# Altium schematic symbol library CM3_CM4_2021_Lib.SchLib: 258 symbols (part 3 of 4)
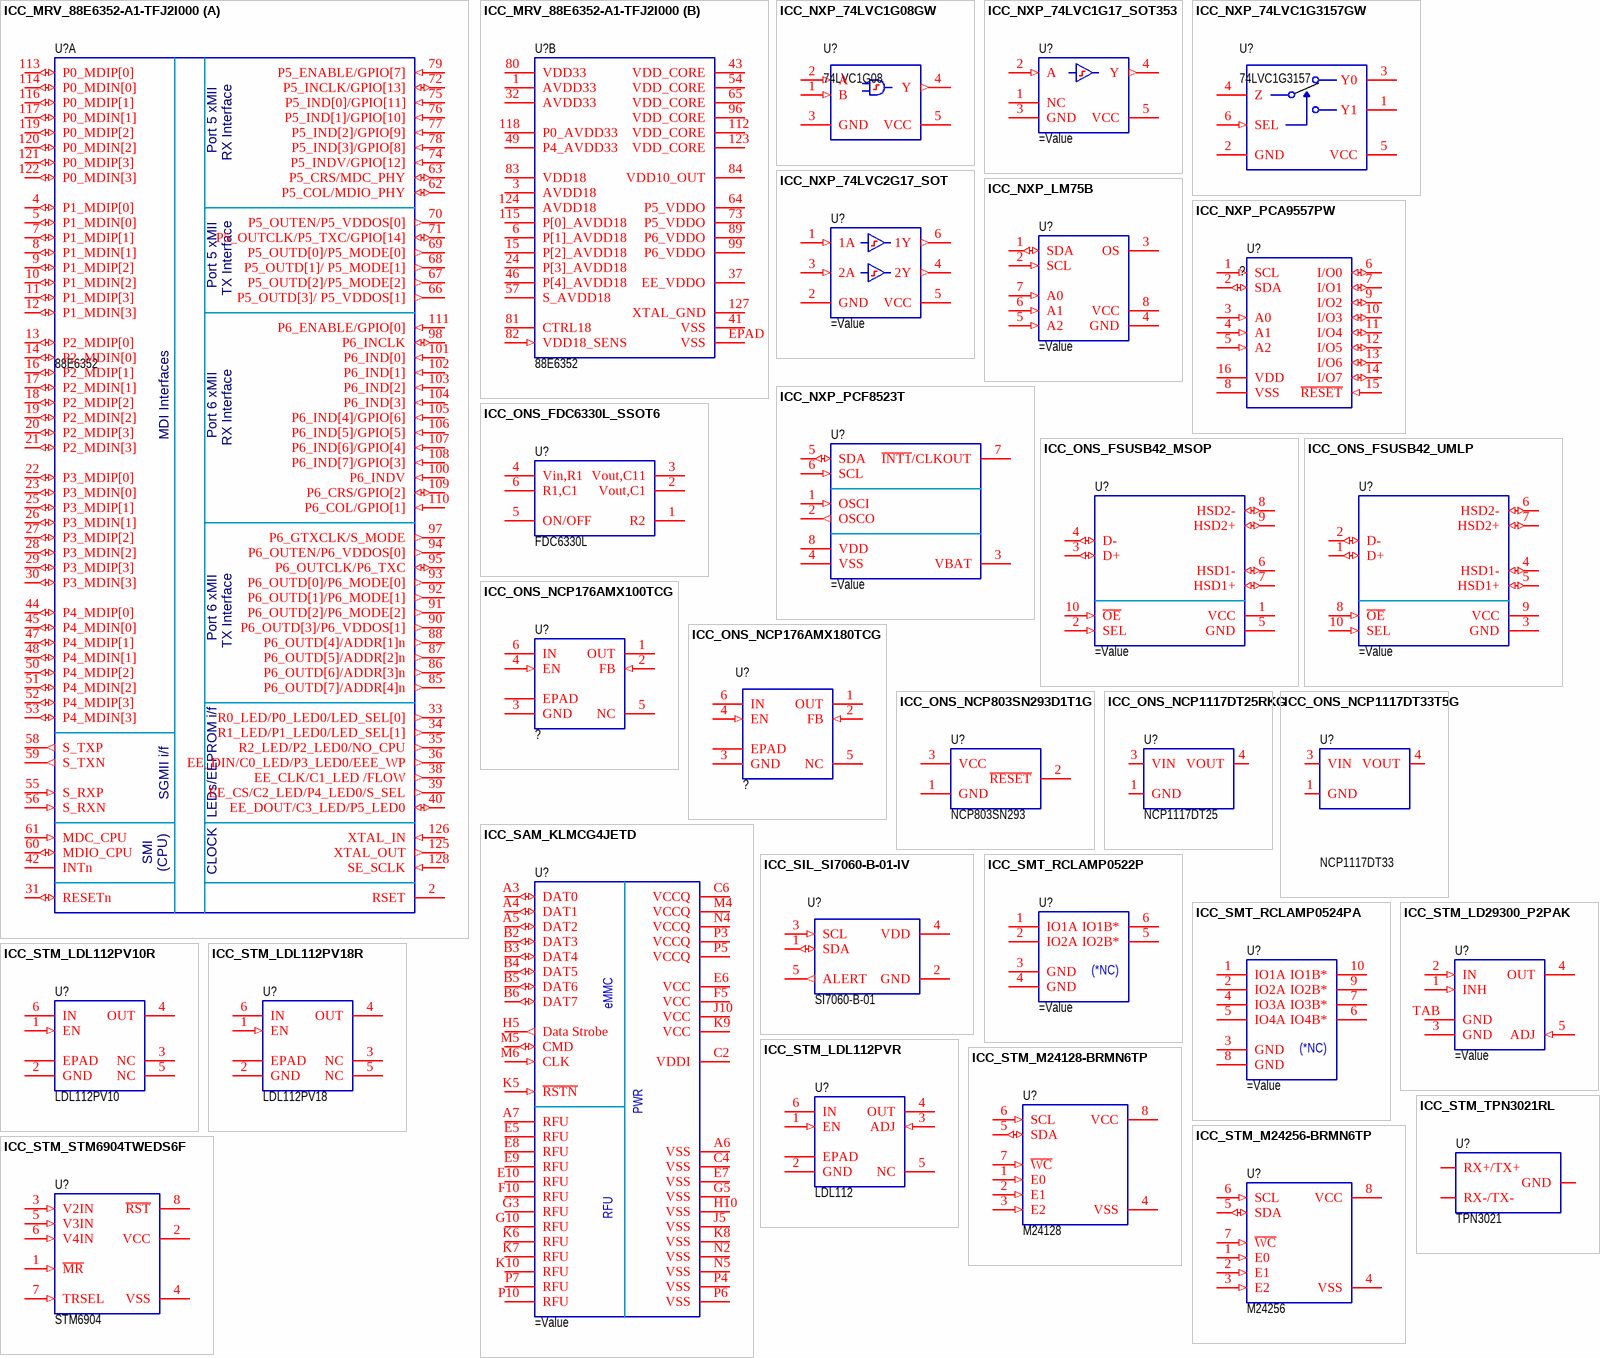
[diagram p17: symbols ICC_MRV_88E6352-A1-TFJ2I000 to ICC_STM_TPN3021RL]

## ICC_STM_LDL112PV10R
designator U?, comment LDL112PV10
ICC; Manufacturer: STMicroelectronics; MPN: LDL112PV10R; Specification: Low quiescent current LDO, 1.2A, Vout=1.0V, DFN6 package; Component Type: IC; Mounting Type: SMD; Operating Temperature: -40°C to +125°C; Package: DFN6; Value: LDL112PV10
footprint ICC_DFN6_300X300_P95
pins: 1 EN (in), 2 GND (power), 3 NC, 4 OUT (power), 5 NC, 6 IN (power), EP EPAD (power)

## ICC_STM_LDL112PV18R
designator U?, comment LDL112PV18
ICC; Manufacturer: STMicroelectronics; MPN: LDL112PV18R; Specification: Low quiescent current LDO, 1.2A, Vout=1.8V, DFN6 package; Component Type: IC; Mounting Type: SMD; Operating Temperature: -40°C to +125°C; Package: DFN6; Value: LDL112PV18
footprint ICC_DFN6_300X300_P95
pins: 1 EN (in), 2 GND (power), 3 NC, 4 OUT (power), 5 NC, 6 IN (power), EP EPAD (power)

## ICC_STM_LDL112PVR
designator U?, comment LDL112
ICC; Manufacturer: STMicroelectronics; MPN: LDL112PVR; Specification: Low quiescent current LDO, 1.2A, adjustable version, DFN6 package; Component Type: IC; Mounting Type: SMD; Operating Temperature: -40°C to +125°C; Package: DFN6; Value: LDL112
footprint ICC_DFN6_300X300_P95
pins: 1 EN (in), 2 GND (power), 3 ADJ (in), 4 OUT (power), 5 NC, 6 IN (power), EP EPAD (power)

## ICC_STM_M24128-BRMN6TP
designator U?, comment M24128
ICC; Manufacturer: STMicroelectronics; MPN: M24128-BRMN6TP; Specification: Serial I2C EEPROM memory, 128-Kbit (16KB), 1MHz, SOIC-8 package; Component Type: IC; Mounting Type: SMD; Operating Temperature: -40°C to +85°C; Package: SOIC-8; Value: M24128
pins: 1 E0 (in), 2 E1 (in), 3 E2 (in), 4 VSS (power), 5 SDA (io), 6 SCL (in), 7 ~{WC} (in), 8 VCC (power)

## ICC_STM_M24256-BRMN6TP
designator U?, comment M24256
ICC; Manufacturer: STMicroelectronics; MPN: M24256-BRMN6TP; Specification: Serial I2C EEPROM memory, 256-Kbit (32KB), 1MHz, 1.8 V to 5.5V, SOIC-8 package; Component Type: IC; Mounting Type: SMD; Operating Temperature: -40°C to +85°C; Package: SOIC-8; Value: M24256
pins: 1 E0 (in), 2 E1 (in), 3 E2 (in), 4 VSS (power), 5 SDA (io), 6 SCL (in), 7 ~{WC} (in), 8 VCC (power)

## ICC_STM_STM6904TWEDS6F
designator U?, comment STM6904
ICC; Manufacturer: STMicroelectronics; MPN: STM6904TWEDS6F; Specification: Quad, ultralow voltage supervisor with push-button RESET, TSSOP package; Component Type: IC; Mounting Type: SMD; Operating Temperature: -40°C to +85°C; Package: TSSOP8; Value: STM6904
footprint TSSOP8 (Footprint not found)
pins: 1 ~{MR} (in), 2 VCC (power), 3 V2IN (in), 4 VSS (power), 5 V3IN (in), 6 V4IN (in), 7 TRSEL (in), 8 ~{RST} (oc)

## ICC_STM_TPN3021RL
designator U?, comment TPN3021
ICC; Manufacturer: STMicroelectronics; MPN: TPN3021RL; Specification: Tripolar overvoltage protection, 38V, 200A surge, SMD SOIC-8 package; Component Type: IC; Mounting Type: SMD; Operating Temperature: -40°C to +150°C; Package: SOIC-8; Value: TPN3021
footprint SO8 (Reflow soldering)
pins: 1 RX+/TX+ (power), 4 RX-/TX- (power), 6 GND (power)

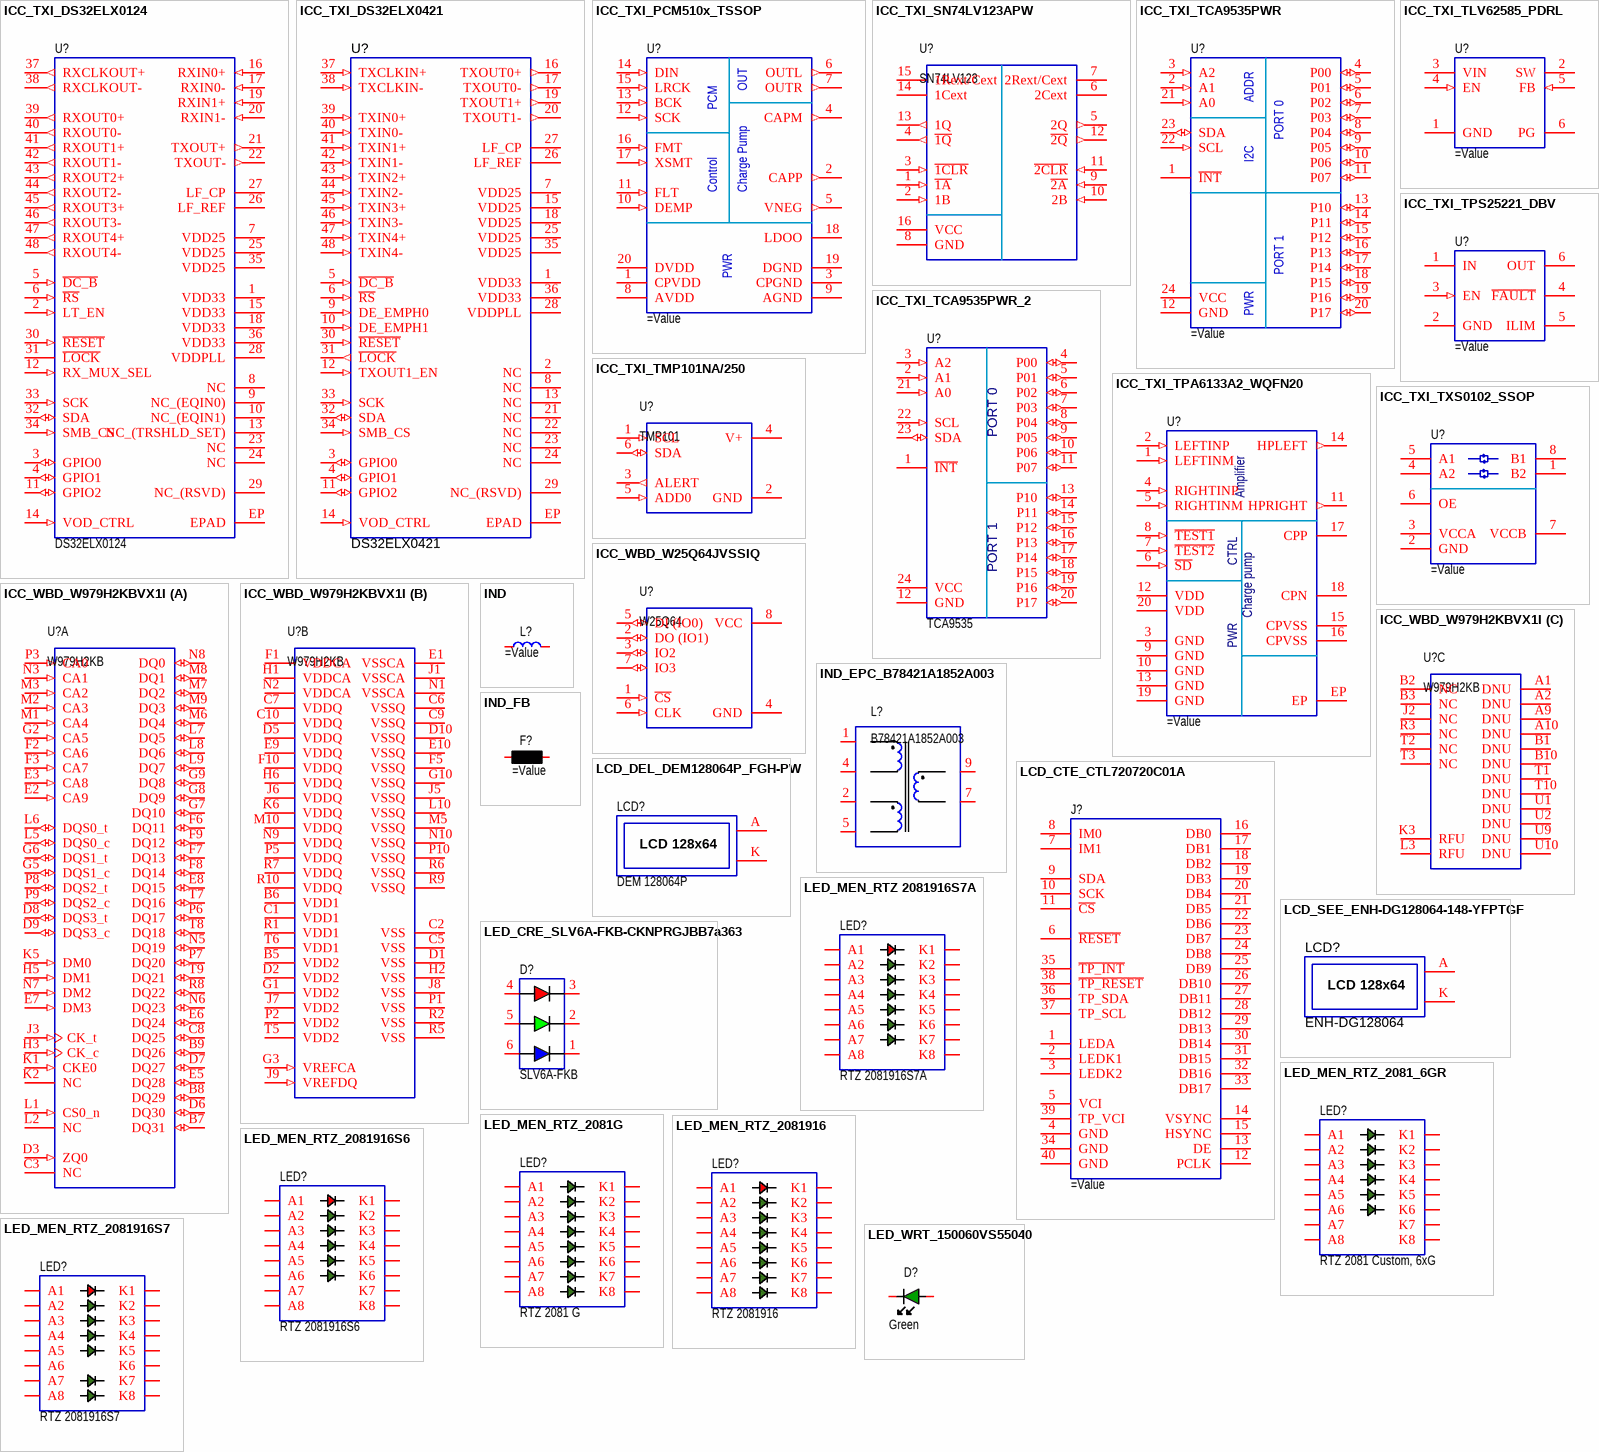
[diagram p11: symbols ICC_TXI_DS32ELX0124 to LED_WRT_150060VS55040]

## ICC_TXI_DS32ELX0124
designator U?, comment DS32ELX0124
IC; Manufacturer: Texas Instruments; MPN: DS32ELX0124SQE/NOPB; Replacement: NO; Specification: 125 - 312.5 MHz FPGA-Link Deserializer with DDR LVDS Parallel Interface, WQFN48 package; Component Type: IC; Mounting Type: SMD; Operating Temperature: -40°C to +85°C; Package: WQFN48; System: ?; Value: DS32ELX0124
footprint ICC_WQFN48 (Footprint not found)
pins: 1 VDD33 (power), 2 LT_EN (in), 3 GPIO0 (io), 4 GPIO1 (io), 5 ~{DC_B} (in), 6 ~{RS} (in), 7 VDD25 (power), 8 NC, 9 NC_(EQIN0), 10 NC_(EQIN1), 11 GPIO2 (io), 12 RX_MUX_SEL (in), 13 NC_(TRSHLD_SET), 14 VOD_CTRL (in), 15 VDD33 (power), 16 RXIN0+ (in), 17 RXIN0- (in), 18 VDD33 (power), 19 RXIN1+ (in), 20 RXIN1- (in), 21 TXOUT+ (out), 22 TXOUT- (out), 23 NC, 24 NC, 25 VDD25 (power), 26 LF_REF, 27 LF_CP, 28 VDDPLL (power), 29 NC_(RSVD), 30 ~{RESET} (in), 31 ~{LOCK} (oc), 32 SDA (io), 33 SCK (in), 34 SMB_CS (in), 35 VDD25 (power), 36 VDD33 (power), 37 RXCLKOUT+ (out), 38 RXCLKOUT- (out), 39 RXOUT0+ (out), 40 RXOUT0- (out), 41 RXOUT1+ (out), 42 RXOUT1- (out), 43 RXOUT2+ (out), 44 RXOUT2- (out), 45 RXOUT3+ (out), 46 RXOUT3- (out), 47 RXOUT4+ (out), 48 RXOUT4- (out), EP EPAD (power)

## ICC_TXI_DS32ELX0421
designator U?, comment DS32ELX0421
IC; Manufacturer: Texas Instruments; MPN: DS32ELX0421SQE/NOPB; Replacement: NO; Specification: 125 - 312.5 MHz FPGA-Link Serializer with DDR LVDS Parallel Interface, WQFN48 package; Component Type: IC; Mounting Type: SMD; Operating Temperature: -40°C to +85°C; Package: WQFN48; System: ?; Value: DS32ELX0421
footprint ICC_WQFN48 (Footprint not found)
pins: 1 VDD33 (power), 2 NC, 3 GPIO0 (io), 4 GPIO1 (io), 5 ~{DC_B} (in), 6 ~{RS} (in), 7 VDD25 (power), 8 NC, 9 DE_EMPH0 (in), 10 DE_EMPH1 (in), 11 GPIO2 (io), 12 TXOUT1_EN (in), 13 NC, 14 VOD_CTRL (in), 15 VDD25 (power), 16 TXOUT0+ (out), 17 TXOUT0- (out), 18 VDD25 (power), 19 TXOUT1+ (out), 20 TXOUT1- (out), 21 NC, 22 NC, 23 NC, 24 NC, 25 VDD25 (power), 26 LF_REF, 27 LF_CP, 28 VDDPLL (power), 29 NC_(RSVD), 30 ~{RESET} (in), 31 ~{LOCK} (out), 32 SDA (io), 33 SCK (in), 34 SMB_CS (in), 35 VDD25 (power), 36 VDD33 (power), 37 TXCLKIN+ (in), 38 TXCLKIN- (in), 39 TXIN0+ (in), 40 TXIN0- (in), 41 TXIN1+ (in), 42 TXIN1- (in), 43 TXIN2+ (in), 44 TXIN2- (in), 45 TXIN3+ (in), 46 TXIN3- (in), 47 TXIN4+ (in), 48 TXIN4- (in), EP EPAD (power)

## ICC_TXI_PCM510x_TSSOP
designator U?
IC; Audio DAC;
pins: 1 CPVDD (power), 2 CAPP (out), 3 CPGND (power), 4 CAPM (out), 5 VNEG (out), 6 OUTL (out), 7 OUTR (out), 8 AVDD (power), 9 AGND (power), 10 DEMP (in), 11 FLT (in), 12 SCK (in), 13 BCK (in), 14 DIN (in), 15 LRCK (in), 16 FMT (in), 17 XSMT (in), 18 LDOO (power), 19 DGND (power), 20 DVDD (power)
text: OUT; PCM; Control; Charge Pump; PWR

## ICC_TXI_SN74LV123APW
designator U?, comment SN74LV123
ICC; Manufacturer: Texas Instruments; MPN: SN74LV123APW; Specification: Retriggerable monostable multivibrator with schmitt-trigger inputs, dual, TSSOP16 package; Component Type: IC; Mounting Type: SMD; Operating Temperature: -40°C to +125°C; Package: TSSOP16; Value: SN74LV123
footprint ICC_TSSOP16
pins: 1 ~{1A} (in), 2 1B (in), 3 ~{1CLR} (in), 4 ~{1Q} (out), 5 2Q (out), 6 2Cext, 7 2Rext/Cext, 8 GND (power), 9 ~{2A} (in), 10 2B (in), 11 ~{2CLR} (in), 12 ~{2Q} (out), 13 1Q (out), 14 1Cext, 15 1Rext/Cext, 16 VCC (power)

## ICC_TXI_TCA9535PWR
designator U?
IC; I/O Expander;
pins: 1 ~{INT} (oc), 2 A1 (in), 3 A2 (in), 4 P00 (io), 5 P01 (io), 6 P02 (io), 7 P03 (io), 8 P04 (io), 9 P05 (io), 10 P06 (io), 11 P07 (io), 12 GND (power), 13 P10 (io), 14 P11 (io), 15 P12 (io), 16 P13 (io), 17 P14 (io), 18 P15 (io), 19 P16 (io), 20 P17 (io), 21 A0 (in), 22 SCL (in), 23 SDA (io), 24 VCC (power)
text: ADDR; PORT 0; I2C; PORT 1; PWR

## ICC_TXI_TCA9535PWR_2
designator U?, comment TCA9535
ICC; Manufacturer: Texas Instruments; MPN: TCA9535PWR; Specification: 16-bit I2C and SMBus I/O Expander with Interrupt Output, TSSOP24 package; Component Type: IC; Mounting Type: SMD; Operating Temperature: -40°C to +85°C; Package: TSSOP24; Value: TCA9535
footprint ICC_TSSOP24_TI
pins: 1 ~{INT} (oc), 2 A1 (in), 3 A2 (in), 4 P00 (io), 5 P01 (io), 6 P02 (io), 7 P03 (io), 8 P04 (io), 9 P05 (io), 10 P06 (io), 11 P07 (io), 12 GND (power), 13 P10 (io), 14 P11 (io), 15 P12 (io), 16 P13 (io), 17 P14 (io), 18 P15 (io), 19 P16 (io), 20 P17 (io), 21 A0 (in), 22 SCL (in), 23 SDA (io), 24 VCC (power)
text: PORT 0; PORT 1

## ICC_TXI_TLV62585_PDRL
designator U?
IC; Buck Converter;
pins: 1 GND (power), 2 SW (power), 3 VIN (power), 4 EN (in), 5 FB (in), 6 PG (oc)

## ICC_TXI_TMP101NA/250
designator U?, comment TMP101
ICC; Manufacturer: Texas Instruments; MPN: TMP101NA/250; Specification: Temperature sensor with alert function, I2C/SMBus interface, SOT-23-6 package; Component Type: IC; Mounting Type: SMD; Operating Temperature: -55°C to +125°C; Package: SOT23-6; Value: TMP101
footprint PKG_SOT23-6 (Footprint not found)
pins: 1 SCL (in), 2 GND (power), 3 ALERT (out), 4 V+ (power), 5 ADD0 (in), 6 SDA (io)

## ICC_TXI_TPA6133A2_WQFN20
designator U?
IC; Headphone Amplifier;
pins: 1 LEFTINM (in), 2 LEFTINP (in), 3 GND (power), 4 RIGHTINP (in), 5 RIGHTINM (in), 6 ~{SD} (in), 7 ~{TEST2} (in), 8 ~{TEST1} (in), 9 GND (power), 10 GND (power), 11 HPRIGHT (out), 12 VDD (power), 13 GND (power), 14 HPLEFT (out), 15 CPVSS (power), 16 CPVSS (power), 17 CPP (power), 18 CPN (power), 19 GND (power), 20 VDD (power), EP
text: Amplifier; CTRL; Charge pump; PWR

## ICC_TXI_TPS25221_DBV
designator U?
IC; Current Limited Switch;
pins: 1 IN (power), 2 GND (power), 3 EN (in), 4 ~{FAULT}, 5 ILIM, 6 OUT (power)

## ICC_TXI_TXS0102_SSOP
designator U?
IC; Level Translator;
pins: 1 B2, 2 GND, 3 VCCA, 4 A2, 5 A1, 6 OE, 7 VCCB, 8 B1

## ICC_WBD_W25Q64JVSSIQ
designator U?, comment W25Q64
ICC; Manufacturer: Winbond Electronics; MPN: W25Q64JVSSIQ; Specification: Serial NOR Flash memory, 3V, 64Mbit, SPI interface, 133MHz, SOIC 8pin; Component Type: IC; Mounting Type: SMD; Operating Temperature: -40°C to +85°C; Package: SOIC-8; Value: W25Q64
footprint SO8 (Footprint not found)
pins: 1 ~{CS} (in), 2 DO (IO1) (io), 3 IO2 (io), 4 GND (power), 5 DI (IO0) (io), 6 CLK (in), 7 IO3 (io), 8 VCC (power)

## ICC_WBD_W979H2KBVX1I
designator U?, comment W979H2KB
ICC; Manufacturer: Winbond Electronics; MPN: W979H2KBVX1I; Specification: DRAM LPDDR2 memory, 512Mbit, 16Mx32bit, 533 MHz (1066Mbps), VFBGA 134 pin package; Component Type: IC; Mounting Type: SMD; Operating Temperature: -40°C to +85°C; Package: VFBGA134; Value: W979H2KB
footprint ICC_VFBGA134_1000X1150X90P65 (BGA, 134-Balls, Body 11.5x10mm, Pitch 0.65mm)
part A pins: B7 DQ31 (io) "Data input/output: Bidirectional data bus.", B8 DQ29 (io) "Data input/output: Bidirectional data bus.", B9 DQ26 (io) "Data input/output: Bidirectional data bus.", C3 NC "No connect: Not internally connected.", C8 DQ25 (io) "Data input/output: Bidirectional data bus.", D3 ZQ0 (in) "External impedance (240 ohm): This signal is used to calibrate the device output impedance.", D6 DQ30 (io) "Data input/output: Bidirectional data bus.", D7 DQ27 (io) "Data input/output: Bidirectional data bus.", D8 DQS3_t (io) "Data strobe: The data strobe is bidirectional (used for read and write data) andcomplementary (DQS and DQS#). It is edge-aligned output with read data andcentered input with write data. DQS[3:0]/DQS[3:0]# is DQS for each of (See Datasheet)", D9 DQS3_c (io) "Data strobe: The data strobe is bidirectional (used for read and write data) andcomplementary (DQS and DQS#). It is edge-aligned output with read data andcentered input with write data. DQS[3:0]/DQS[3:0]# is DQS for each of (See Datasheet)", E2 CA9 (in) "Command/address inputs: Provide the command and address inputs accordingto the command truth table.", E3 CA8 (in) "Command/address inputs: Provide the command and address inputs accordingto the command truth table.", E5 DQ28 (io) "Data input/output: Bidirectional data bus.", E6 DQ24 (io) "Data input/output: Bidirectional data bus.", E7 DM3 (in) "Input data mask: DM is an input mask signal for write data. Although DM ballsare input-only, the DM loading is designed to match that of DQ and DQS balls.DM[3:0] is DM for each of the four data bytes, respectively.", E8 DQ15 (io) "Data input/output: Bidirectional data bus.", F2 CA6 (in) "Command/address inputs: Provide the command and address inputs accordingto the command truth table.", F3 CA7 (in) "Command/address inputs: Provide the command and address inputs accordingto the command truth table.", F6 DQ11 (io) "Data input/output: Bidirectional data bus.", F7 DQ13 (io) "Data input/output: Bidirectional data bus.", F8 DQ14 (io) "Data input/output: Bidirectional data bus.", F9 DQ12 (io) "Data input/output: Bidirectional data bus.", G2 CA5 (in) "Command/address inputs: Provide the command and address inputs accordingto the command truth table.", G5 DQS1_c (io) "Data strobe: The data strobe is bidirectional (used for read and write data) andcomplementary (DQS and DQS#). It is edge-aligned output with read data andcentered input with write data. DQS[3:0]/DQS[3:0]# is DQS for each of (See Datasheet)", G6 DQS1_t (io) "Data strobe: The data strobe is bidirectional (used for read and write data) andcomplementary (DQS and DQS#). It is edge-aligned output with read data andcentered input with write data. DQS[3:0]/DQS[3:0]# is DQS for each of (See Datasheet)", G7 DQ10 (io) "Data input/output: Bidirectional data bus.", G8 DQ9 (io) "Data input/output: Bidirectional data bus.", G9 DQ8 (io) "Data input/output: Bidirectional data bus.", H3 CK_c (in) "Clock: CK and CK# are differential clock inputs. All CA inputs are sampled onboth rising and falling edges of CK. CS and CKE inputs are sampled at the risingedge of CK. AC timings are referenced to clock.", H5 DM1 (in) "Input data mask: DM is an input mask signal for write data. Although DM ballsare input-only, the DM loading is designed to match that of DQ and DQS balls.DM[3:0] is DM for each of the four data bytes, respectively.", J3 CK_t (in) "Clock: CK and CK# are differential clock inputs. All CA inputs are sampled onboth rising and falling edges of CK. CS and CKE inputs are sampled at the risingedge of CK. AC timings are referenced to clock.", K1 CKE0 (in) "Clock enable: CKE HIGH activates and CKE LOW deactivates the internal clocksignals, input buffers, and output drivers. Power-saving modes are entered andexited via CKE transitions. CKE is considered part of the command code. (See Datasheet)", K2 NC "No connect: Not internally connected.", K5 DM0 (in) "Input data mask: DM is an input mask signal for write data. Although DM ballsare input-only, the DM loading is designed to match that of DQ and DQS balls.DM[3:0] is DM for each of the four data bytes, respectively.", L1 CS0_n (in) "Chip select: CS# is considered part of the command code and is sampled at therising edge of CK.", L2 NC "No connect: Not internally connected.", L5 DQS0_c (io) "Data strobe: The data strobe is bidirectional (used for read and write data) andcomplementary (DQS and DQS#). It is edge-aligned output with read data andcentered input with write data. DQS[3:0]/DQS[3:0]# is DQS for each of (See Datasheet)", L6 DQS0_t (io) "Data strobe: The data strobe is bidirectional (used for read and write data) andcomplementary (DQS and DQS#). It is edge-aligned output with read data andcentered input with write data. DQS[3:0]/DQS[3:0]# is DQS for each of (See Datasheet)", L7 DQ5 (io) "Data input/output: Bidirectional data bus.", L8 DQ6 (io) "Data input/output: Bidirectional data bus.", L9 DQ7 (io) "Data input/output: Bidirectional data bus.", M1 CA4 (in) "Command/address inputs: Provide the command and address inputs accordingto the command truth table.", M2 CA3 (in) "Command/address inputs: Provide the command and address inputs accordingto the command truth table.", M3 CA2 (in) "Command/address inputs: Provide the command and address inputs accordingto the command truth table.", M6 DQ4 (io) "Data input/output: Bidirectional data bus.", M7 DQ2 (io) "Data input/output: Bidirectional data bus.", M8 DQ1 (io) "Data input/output: Bidirectional data bus.", M9 DQ3 (io) "Data input/output: Bidirectional data bus.", N3 CA1 (in) "Command/address inputs: Provide the command and address inputs accordingto the command truth table.", N5 DQ19 (io) "Data input/output: Bidirectional data bus.", N6 DQ23 (io) "Data input/output: Bidirectional data bus.", N7 DM2 (in) "Input data mask: DM is an input mask signal for write data. Although DM ballsare input-only, the DM loading is designed to match that of DQ and DQS balls.DM[3:0] is DM for each of the four data bytes, respectively.", N8 DQ0 (io) "Data input/output: Bidirectional data bus.", P3 CA0 (in) "Command/address inputs: Provide the command and address inputs accordingto the command truth table.", P6 DQ17 (io) "Data input/output: Bidirectional data bus.", P7 DQ20 (io) "Data input/output: Bidirectional data bus.", P8 DQS2_t (io) "Data strobe: The data strobe is bidirectional (used for read and write data) andcomplementary (DQS and DQS#). It is edge-aligned output with read data andcentered input with write data. DQS[3:0]/DQS[3:0]# is DQS for each of (See Datasheet)", P9 DQS2_c (io) "Data strobe: The data strobe is bidirectional (used for read and write data) andcomplementary (DQS and DQS#). It is edge-aligned output with read data andcentered input with write data. DQS[3:0]/DQS[3:0]# is DQS for each of (See Datasheet)", R8 DQ22 (io) "Data input/output: Bidirectional data bus.", T7 DQ16 (io) "Data input/output: Bidirectional data bus.", T8 DQ18 (io) "Data input/output: Bidirectional data bus.", T9 DQ21 (io) "Data input/output: Bidirectional data bus."
part B pins: B5 VDD2 (power) "Core power: Supply 2.", B6 VDD1 (power) "Core power: Supply 1.", C1 VDD1 (power) "Core power: Supply 1.", C2 VSS (power) "Common ground.", C5 VSS (power) "Common ground.", C6 VSSQ (power) "DQ ground: Isolated on the die for improved noise immunity.", C7 VDDQ (power) "DQ power supply: Isolated on the die for improved noise immunity.", C9 VSSQ (power) "DQ ground: Isolated on the die for improved noise immunity.", C10 VDDQ (power) "DQ power supply: Isolated on the die for improved noise immunity.", D1 VSS (power) "Common ground", D2 VDD2 (power) "Core power: Supply 2.", D5 VDDQ (power) "DQ power supply: Isolated on the die for improved noise immunity.", D10 VSSQ (power) "DQ ground: Isolated on the die for improved noise immunity.", E1 VSSCA (power) "Command/address ground: Isolated on the die for improved noise immunity.", E9 VDDQ (power) "DQ power supply: Isolated on the die for improved noise immunity.", E10 VSSQ (power) "DQ ground: Isolated on the die for improved noise immunity.", F1 VDDCA (power) "Command/address power supply: Command/address power supply.", F5 VSSQ (power) "DQ ground: Isolated on the die for improved noise immunity.", F10 VDDQ (power) "DQ power supply: Isolated on the die for improved noise immunity.", G1 VDD2 (power) "Core power: Supply 2.", G3 VREFCA (in) "Reference voltage: VREFCA is reference for command/address input buffers,VREFDQ is reference for DQ input buffers.", G10 VSSQ (power) "DQ ground: Isolated on the die for improved noise immunity.", H1 VDDCA (power) "Command/address power supply: Command/address power supply.", H2 VSS (power) "Common ground", H6 VDDQ (power) "DQ power supply: Isolated on the die for improved noise immunity.", J1 VSSCA (power) "Command/address ground: Isolated on the die for improved noise immunity.", J5 VSSQ (power) "DQ ground: Isolated on the die for improved noise immunity.", J6 VDDQ (power) "DQ power supply: Isolated on the die for improved noise immunity.", J7 VDD2 (power) "Core power: Supply 2.", J8 VSS (power) "Common ground", J9 VREFDQ (in) "Reference voltage: VREFCA is reference for command/address input buffers,VREFDQ is reference for DQ input buffers.", K6 VDDQ (power) "DQ power supply: Isolated on the die for improved noise immunity.", L10 VSSQ (power) "DQ ground: Isolated on the die for improved noise immunity.", M5 VSSQ (power) "DQ ground: Isolated on the die for improved noise immunity.", M10 VDDQ (power) "DQ power supply: Isolated on the die for improved noise immunity.", N1 VSSCA (power) "Command/address ground: Isolated on the die for improved noise immunity.", N2 VDDCA (power) "Command/address power supply: Command/address power supply.", N9 VDDQ (power) "DQ power supply: Isolated on the die for improved noise immunity.", N10 VSSQ (power) "DQ ground: Isolated on the die for improved noise immunity.", P1 VSS (power) "Common ground", P2 VDD2 (power) "Core power: Supply 2.", P5 VDDQ (power) "DQ power supply: Isolated on the die for improved noise immunity.", P10 VSSQ (power) "DQ ground: Isolated on the die for improved noise immunity.", R1 VDD1 (power) "Core power: Supply 1.", R2 VSS (power) "Common ground", R5 VSS (power) "Common ground", R6 VSSQ (power) "DQ ground: Isolated on the die for improved noise immunity.", R7 VDDQ (power) "DQ power supply: Isolated on the die for improved noise immunity.", R9 VSSQ (power) "DQ ground: Isolated on the die for improved noise immunity.", R10 VDDQ (power) "DQ power supply: Isolated on the die for improved noise immunity.", T5 VDD2 (power) "Core power: Supply 2.", T6 VDD1 (power) "Core power: Supply 1."
part C pins: A1 DNU "Do not use: Must be grounded or left floating.", A2 DNU "Do not use: Must be grounded or left floating.", A9 DNU "Do not use: Must be grounded or left floating.", A10 DNU "Do not use: Must be grounded or left floating.", B1 DNU "Do not use: Must be grounded or left floating.", B2 NC "No connect: Not internally connected.", B3 NC "No connect: Not internally connected.", B10 DNU "Do not use: Must be grounded or left floating.", J2 NC "No connect: Not internally connected.", K3 RFU, L3 RFU, R3 NC "No connect: Not internally connected.", T1 DNU "Do not use: Must be grounded or left floating.", T2 NC "No connect: Not internally connected.", T3 NC "No connect: Not internally connected.", T10 DNU "Do not use: Must be grounded or left floating.", U1 DNU "Do not use: Must be grounded or left floating.", U2 DNU "Do not use: Must be grounded or left floating.", U9 DNU "Do not use: Must be grounded or left floating.", U10 DNU "Do not use: Must be grounded or left floating."

## IND
designator L?
Inductor;
pins: 1, 2

## IND_EPC_B78421A1852A003
designator L?, comment B78421A1852A003
Transformer; Manufacturer: TDK (Epcos); Specification: SHDSL interface transformer for Socrates IC, EP13, 3.019mH, 2:25:2.25:1 ratio, SMD package; Component Type: Transformer; Mounting Type: SMD; MPN: B78421A1852A003; Operating Temperature: -40°C to +85°C; Package: TRF EP13 SMD 10 pin; Value: B78421A1852A003
pins: 1 N2+, 2 N1+, 4 N2-, 5 N1-, 7 N3-, 9 N3+

## IND_FB
designator F?
Inductor; Ferrite Bead;
footprint 0603F (Footprint not found)
pins: 1, 2

## LCD_CTE_CTL720720C01A
designator J?
Display; LCD RGB;
pins: 1 LEDA, 2 LEDK1, 3 LEDK2, 4 GND, 5 VCI, 6 ~{RESET}, 7 IM1, 8 IM0, 9 SDA, 10 SCK, 11 ~{CS}, 12 PCLK, 13 DE, 14 VSYNC, 15 HSYNC, 16 DB0, 17 DB1, 18 DB2, 19 DB3, 20 DB4, 21 DB5, 22 DB6, 23 DB7, 24 DB8, 25 DB9, 26 DB10, 27 DB11, 28 DB12, 29 DB13, 30 DB14, 31 DB15, 32 DB16, 33 DB17, 34 GND, 35 ~{TP_INT}, 36 TP_SDA, 37 TP_SCL, 38 ~{TP_RESET}, 39 TP_VCI, 40 GND

## LCD_DEL_DEM128064P_FGH-PW
designator LCD?, comment DEM 128064P
LCD display; Manufacturer: Display Elektronik; MPN: DEM 128064P FGH-PW; Replacement: NO; Specification: Graphic LCD display, 128x64 pix., FSTN positive, white backlight, 37x30.3x7.1mm, ST7567 controller, THT package; Component Type: LCD display; Mounting Type: THT; Operating Temperature: -20°C to +70°C; Package: THT, 37x30.3mm; System: ?; Value: DEM 128064P
footprint LCD_DEL_DEM128064P_FGH-PW_A1
footprint LCD_DEL_DEM128064P_FGH-PW_A2
pins: A, K
text: LCD 128x64

## LCD_SEE_ENH-DG128064-148-YFPTGF
designator LCD?, comment ENH-DG128064
LCD display; Manufacturer: Shenzhen Enrich Electronics; MPN: ENH-DG128064-148-YFPTGF; Replacement: NO; Specification: Graphic LCD display, 128x64 pix., FSTN negative, white backlight, 56.60x38.60x5.10mm, ST7567 controller, THT package; Component Type: LCD display; Mounting Type: THT; Operating Temperature: -20°C to +70°C; Package: THT, 56.6x38.6mm; System: ?; Value: ENH-DG128064
footprint LCD_SEE_ENH-DG128064-148-YFPTGF_A1
footprint LCD_SEE_ENH-DG128064-148-YFPTGF_A2
pins: A, K
text: LCD 128x64

## LED_CRE_SLV6A-FKB-CKNPRGJBB7a363
designator D?, comment SLV6A-FKB
LED; Manufacturer: CREE; MPN: SLV6A-FKB-CKNPRGJBB7a363; Replacement: YES; Specification: LED RGB diode, Red 560-1120 mcd, Green 1120-2240 mcd, Blue 280-560 mcd, PLCC6 package; Component Type: LED Diode; Mounting Type: SMD; Operating Temperature: -40°C to +100°C; Package: SMD PLCC6; System: ?; Value: SLV6A-FKB
footprint LED_CRE_PLCC6_550_550
pins: 1 CB, 2 CG, 3 CR, 4 AR, 5 AG, 6 AB

## LED_MEN_RTZ 2081916S7A
designator LED?, comment RTZ 2081916S7A
LED Array; Manufacturer: MENTOR GmbH; Specification: LED Array, fi 2mm, 1x Red + 6x Green LEDs, 1x Empty, horizontal; Component Type: LED; Mounting Type: THT; MPN: RTZ 2081916S7A; Operating Temperature: -40°C to +85°C; Package: THT; Value: RTZ 2081916S7A
footprint LED_MTR_RTZ_2081_1R_6G
pins: A1, A2, A3, A4, A5, A6, A7, A8, K1, K2, K3, K4, K5, K6, K7, K8

## LED_MEN_RTZ_2081_6GR
designator LED?, comment RTZ 2081 Custom, 6xG
LED Array; Manufacturer: MENTOR GmbH; Specification: LED Array, fi 2mm, 6x Green LEDs, 2x Empty, horizontal; Component Type: LED; Mounting Type: THT; MPN: RTZ 2081 Custom, 6xG; Operating Temperature: -40°C to +85°C; Package: THT; Value: RTZ 2081 Custom, 6xG
footprint LED_MTR_RTZ_2081_6G_2E
footprint LED_MTR_RTZ_2081_6G_2E_SMD
pins: A1, A2, A3, A4, A5, A6, A7, A8, K1, K2, K3, K4, K5, K6, K7, K8

## LED_MEN_RTZ_2081G
designator LED?, comment RTZ 2081 G
LED Array; Manufacturer: MENTOR GmbH; Specification: LED Array, fi 2mm, 8x Green LEDs, horizontal; Component Type: LED; Mounting Type: THT; MPN: RTZ 2081 G; Operating Temperature: -40°C to +85°C; Package: THT; Value: RTZ 2081 G
footprint LED_MTR_RTZ_2081G
pins: A1, A2, A3, A4, A5, A6, A7, A8, K1, K2, K3, K4, K5, K6, K7, K8

## LED_MEN_RTZ_2081916
designator LED?, comment RTZ 2081916
LED Array; Manufacturer: MENTOR GmbH; Specification: LED Array, fi 2mm, 1x Red + 7x Green LEDs, horizontal; Component Type: LED; Mounting Type: THT; MPN: RTZ 2081916; Operating Temperature: -40°C to +85°C; Package: THT; Value: RTZ 2081916
footprint LED_MTR_RTZ_2081_1R_7G
pins: A1, A2, A3, A4, A5, A6, A7, A8, K1, K2, K3, K4, K5, K6, K7, K8

## LED_MEN_RTZ_2081916S6
designator LED?, comment RTZ 2081916S6
LED Array; Manufacturer: MENTOR GmbH; Specification: LED Array, fi 2mm, 1x Red + 5x Green LEDs, 2x Empty, horizontal; Component Type: LED; Mounting Type: THT; MPN: RTZ 2081916S6; Operating Temperature: -40°C to +85°C; Package: THT; Value: RTZ 2081916S6
footprint LED_MTR_RTZ_2081_1R_5G
pins: A1, A2, A3, A4, A5, A6, A7, A8, K1, K2, K3, K4, K5, K6, K7, K8

## LED_MEN_RTZ_2081916S7
designator LED?, comment RTZ 2081916S7
LED Array; Manufacturer: MENTOR GmbH; Specification: LED Array, fi 2mm, 1x Red + 4x Green LEDs, 1x Empty, 2x Green LEDs, horizontal; Component Type: LED; Mounting Type: THT; MPN: RTZ 2081916S7; Operating Temperature: -40°C to +85°C; Package: THT; Value: RTZ 2081916S7
footprint LED_MTR_RTZ_2081_1R_4G_1E_2G
pins: A1, A2, A3, A4, A5, A6, A7, A8, K1, K2, K3, K4, K5, K6, K7, K8

## LED_WRT_150060VS55040
designator D?, comment Green
LED; Manufacturer: Wurth Elektronik; MPN: 150060VS55040; Replacement: YES; Specification: LED diode, green, 575nm, 60mcd, 140deg, 0603 package; Component Type: LED Diode; Mounting Type: SMD; Operating Temperature: -40°C to +85°C; Package: SMD 0603 (1608); System: ?; Value: Green
footprint LED_0603R
pins: 1 K, 2 A

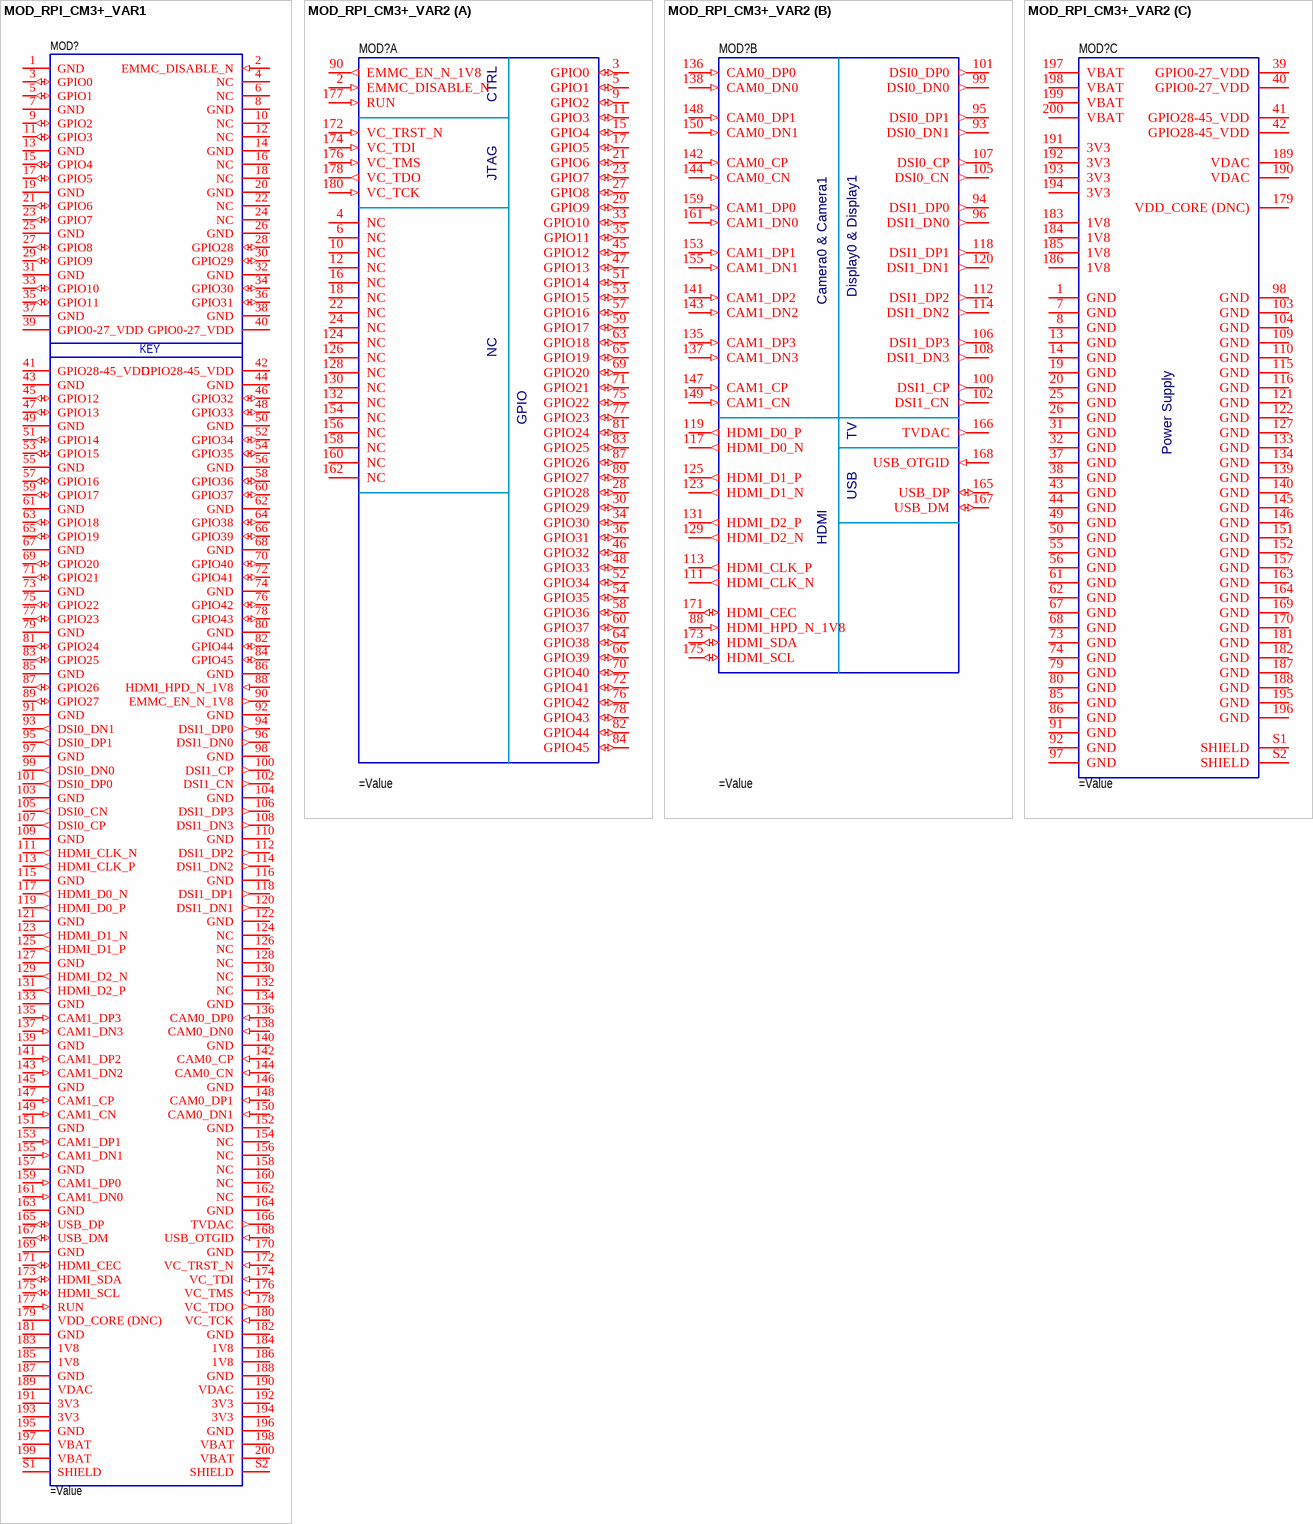
[diagram p12: symbols MOD_RPI_CM3+_VAR1 to MOD_RPI_CM3+_VAR2]

## MOD_RPI_CM3+_VAR1
designator MOD?
PCB Module; RPi Compute Module 3+;
pins: 1 GND (power), 2 EMMC_DISABLE_N (in), 3 GPIO0 (io), 4 NC, 5 GPIO1 (io), 6 NC, 7 GND (power), 8 GND (power), 9 GPIO2 (io), 10 NC, 11 GPIO3 (io), 12 NC, 13 GND (power), 14 GND (power), 15 GPIO4 (io), 16 NC, 17 GPIO5 (io), 18 NC, 19 GND (power), 20 GND (power), 21 GPIO6 (io), 22 NC, 23 GPIO7 (io), 24 NC, 25 GND (power), 26 GND (power), 27 GPIO8 (io), 28 GPIO28 (io), 29 GPIO9 (io), 30 GPIO29 (io), 31 GND (power), 32 GND (power), 33 GPIO10 (io), 34 GPIO30 (io), 35 GPIO11 (io), 36 GPIO31 (io), 37 GND (power), 38 GND (power), 39 GPIO0-27_VDD (power), 40 GPIO0-27_VDD (power), 41 GPIO28-45_VDD (power), 42 GPIO28-45_VDD (power), 43 GND (power), 44 GND (power), 45 GPIO12 (io), 46 GPIO32 (io), 47 GPIO13 (io), 48 GPIO33 (io), 49 GND (power), 50 GND (power), 51 GPIO14 (io), 52 GPIO34 (io), 53 GPIO15 (io), 54 GPIO35 (io), 55 GND (power), 56 GND (power), 57 GPIO16 (io), 58 GPIO36 (io), 59 GPIO17 (io), 60 GPIO37 (io), 61 GND (power), 62 GND (power), 63 GPIO18 (io), 64 GPIO38 (io), 65 GPIO19 (io), 66 GPIO39 (io), 67 GND (power), 68 GND (power), 69 GPIO20 (io), 70 GPIO40 (io), 71 GPIO21 (io), 72 GPIO41 (io), 73 GND (power), 74 GND (power), 75 GPIO22 (io), 76 GPIO42 (io), 77 GPIO23 (io), 78 GPIO43 (io), 79 GND (power), 80 GND (power), 81 GPIO24 (io), 82 GPIO44 (io), 83 GPIO25 (io), 84 GPIO45 (io), 85 GND (power), 86 GND (power), 87 GPIO26 (io), 88 HDMI_HPD_N_1V8 (in), 89 GPIO27 (io), 90 EMMC_EN_N_1V8 (out), 91 GND (power), 92 GND (power), 93 DSI0_DN1 (out), 94 DSI1_DP0 (out), 95 DSI0_DP1 (out), 96 DSI1_DN0 (out), 97 GND (power), 98 GND (power), 99 DSI0_DN0 (out), 100 DSI1_CP (out), 101 DSI0_DP0 (out), 102 DSI1_CN (out), 103 GND (power), 104 GND (power), 105 DSI0_CN (out), 106 DSI1_DP3 (out), 107 DSI0_CP (out), 108 DSI1_DN3 (out), 109 GND (power), 110 GND (power), 111 HDMI_CLK_N (out), 112 DSI1_DP2 (out), 113 HDMI_CLK_P (out), 114 DSI1_DN2 (out), 115 GND (power), 116 GND (power), 117 HDMI_D0_N (out), 118 DSI1_DP1 (out), 119 HDMI_D0_P (out), 120 DSI1_DN1 (out), 121 GND (power), 122 GND (power), 123 HDMI_D1_N (out), 124 NC, 125 HDMI_D1_P (out), 126 NC, 127 GND (power), 128 NC, 129 HDMI_D2_N (out), 130 NC, 131 HDMI_D2_P (out), 132 NC, 133 GND (power), 134 GND (power), 135 CAM1_DP3 (in), 136 CAM0_DP0 (in), 137 CAM1_DN3 (in), 138 CAM0_DN0 (in), 139 GND (power), 140 GND (power), 141 CAM1_DP2 (in), 142 CAM0_CP (in), 143 CAM1_DN2 (in), 144 CAM0_CN (in), 145 GND (power), 146 GND (power), 147 CAM1_CP (in), 148 CAM0_DP1 (in), 149 CAM1_CN (in), 150 CAM0_DN1 (in), 151 GND (power), 152 GND (power), 153 CAM1_DP1 (in), 154 NC, 155 CAM1_DN1 (in), 156 NC, 157 GND (power), 158 NC, 159 CAM1_DP0 (in), 160 NC, 161 CAM1_DN0 (in), 162 NC, 163 GND (power), 164 GND (power), 165 USB_DP (io), 166 TVDAC (out), 167 USB_DM (io), 168 USB_OTGID (in), 169 GND (power), 170 GND (power), 171 HDMI_CEC (io), 172 VC_TRST_N (in), 173 HDMI_SDA (io), 174 VC_TDI (in), 175 HDMI_SCL (io), 176 VC_TMS (in), 177 RUN (in), 178 VC_TDO (out), 179 VDD_CORE (DNC), 180 VC_TCK (in), 181 GND (power), 182 GND (power), 183 1V8 (power), 184 1V8 (power), 185 1V8 (power), 186 1V8 (power), 187 GND (power), 188 GND (power), 189 VDAC (power), 190 VDAC (power), 191 3V3 (power), 192 3V3 (power), 193 3V3 (power), 194 3V3 (power), 195 GND (power), 196 GND (power), 197 VBAT (power), 198 VBAT (power), 199 VBAT (power), 200 VBAT (power), S1 SHIELD, S2 SHIELD
text: KEY

## MOD_RPI_CM3+_VAR2
designator MOD?
PCB Module; RPi Compute Module 3+;
part A pins: 2 EMMC_DISABLE_N (in), 3 GPIO0 (io), 4 NC, 5 GPIO1 (io), 6 NC, 9 GPIO2 (io), 10 NC, 11 GPIO3 (io), 12 NC, 15 GPIO4 (io), 16 NC, 17 GPIO5 (io), 18 NC, 21 GPIO6 (io), 22 NC, 23 GPIO7 (io), 24 NC, 27 GPIO8 (io), 28 GPIO28 (io), 29 GPIO9 (io), 30 GPIO29 (io), 33 GPIO10 (io), 34 GPIO30 (io), 35 GPIO11 (io), 36 GPIO31 (io), 45 GPIO12 (io), 46 GPIO32 (io), 47 GPIO13 (io), 48 GPIO33 (io), 51 GPIO14 (io), 52 GPIO34 (io), 53 GPIO15 (io), 54 GPIO35 (io), 57 GPIO16 (io), 58 GPIO36 (io), 59 GPIO17 (io), 60 GPIO37 (io), 63 GPIO18 (io), 64 GPIO38 (io), 65 GPIO19 (io), 66 GPIO39 (io), 69 GPIO20 (io), 70 GPIO40 (io), 71 GPIO21 (io), 72 GPIO41 (io), 75 GPIO22 (io), 76 GPIO42 (io), 77 GPIO23 (io), 78 GPIO43 (io), 81 GPIO24 (io), 82 GPIO44 (io), 83 GPIO25 (io), 84 GPIO45 (io), 87 GPIO26 (io), 89 GPIO27 (io), 90 EMMC_EN_N_1V8 (out), 124 NC, 126 NC, 128 NC, 130 NC, 132 NC, 154 NC, 156 NC, 158 NC, 160 NC, 162 NC, 172 VC_TRST_N (in), 174 VC_TDI (in), 176 VC_TMS (in), 177 RUN (in), 178 VC_TDO (out), 180 VC_TCK (in)
part B pins: 88 HDMI_HPD_N_1V8 (in), 93 DSI0_DN1 (out), 94 DSI1_DP0 (out), 95 DSI0_DP1 (out), 96 DSI1_DN0 (out), 99 DSI0_DN0 (out), 100 DSI1_CP (out), 101 DSI0_DP0 (out), 102 DSI1_CN (out), 105 DSI0_CN (out), 106 DSI1_DP3 (out), 107 DSI0_CP (out), 108 DSI1_DN3 (out), 111 HDMI_CLK_N (out), 112 DSI1_DP2 (out), 113 HDMI_CLK_P (out), 114 DSI1_DN2 (out), 117 HDMI_D0_N (out), 118 DSI1_DP1 (out), 119 HDMI_D0_P (out), 120 DSI1_DN1 (out), 123 HDMI_D1_N (out), 125 HDMI_D1_P (out), 129 HDMI_D2_N (out), 131 HDMI_D2_P (out), 135 CAM1_DP3 (in), 136 CAM0_DP0 (in), 137 CAM1_DN3 (in), 138 CAM0_DN0 (in), 141 CAM1_DP2 (in), 142 CAM0_CP (in), 143 CAM1_DN2 (in), 144 CAM0_CN (in), 147 CAM1_CP (in), 148 CAM0_DP1 (in), 149 CAM1_CN (in), 150 CAM0_DN1 (in), 153 CAM1_DP1 (in), 155 CAM1_DN1 (in), 159 CAM1_DP0 (in), 161 CAM1_DN0 (in), 165 USB_DP (io), 166 TVDAC (out), 167 USB_DM (io), 168 USB_OTGID (in), 171 HDMI_CEC (io), 173 HDMI_SDA (io), 175 HDMI_SCL (io)
part C pins: 1 GND (power), 7 GND (power), 8 GND (power), 13 GND (power), 14 GND (power), 19 GND (power), 20 GND (power), 25 GND (power), 26 GND (power), 31 GND (power), 32 GND (power), 37 GND (power), 38 GND (power), 39 GPIO0-27_VDD (power), 40 GPIO0-27_VDD (power), 41 GPIO28-45_VDD (power), 42 GPIO28-45_VDD (power), 43 GND (power), 44 GND (power), 49 GND (power), 50 GND (power), 55 GND (power), 56 GND (power), 61 GND (power), 62 GND (power), 67 GND (power), 68 GND (power), 73 GND (power), 74 GND (power), 79 GND (power), 80 GND (power), 85 GND (power), 86 GND (power), 91 GND (power), 92 GND (power), 97 GND (power), 98 GND (power), 103 GND (power), 104 GND (power), 109 GND (power), 110 GND (power), 115 GND (power), 116 GND (power), 121 GND (power), 122 GND (power), 127 GND (power), 133 GND (power), 134 GND (power), 139 GND (power), 140 GND (power), 145 GND (power), 146 GND (power), 151 GND (power), 152 GND (power), 157 GND (power), 163 GND (power), 164 GND (power), 169 GND (power), 170 GND (power), 179 VDD_CORE (DNC), 181 GND (power), 182 GND (power), 183 1V8 (power), 184 1V8 (power), 185 1V8 (power), 186 1V8 (power), 187 GND (power), 188 GND (power), 189 VDAC (power), 190 VDAC (power), 191 3V3 (power), 192 3V3 (power), 193 3V3 (power), 194 3V3 (power), 195 GND (power), 196 GND (power), 197 VBAT (power), 198 VBAT (power), 199 VBAT (power), 200 VBAT (power), S1 SHIELD, S2 SHIELD
part A text: CTRL; JTAG; GPIO
part B text: Display0 & Display1; Camera0 & Camera1; TV; USB; HDMI
part C text: Power Supply

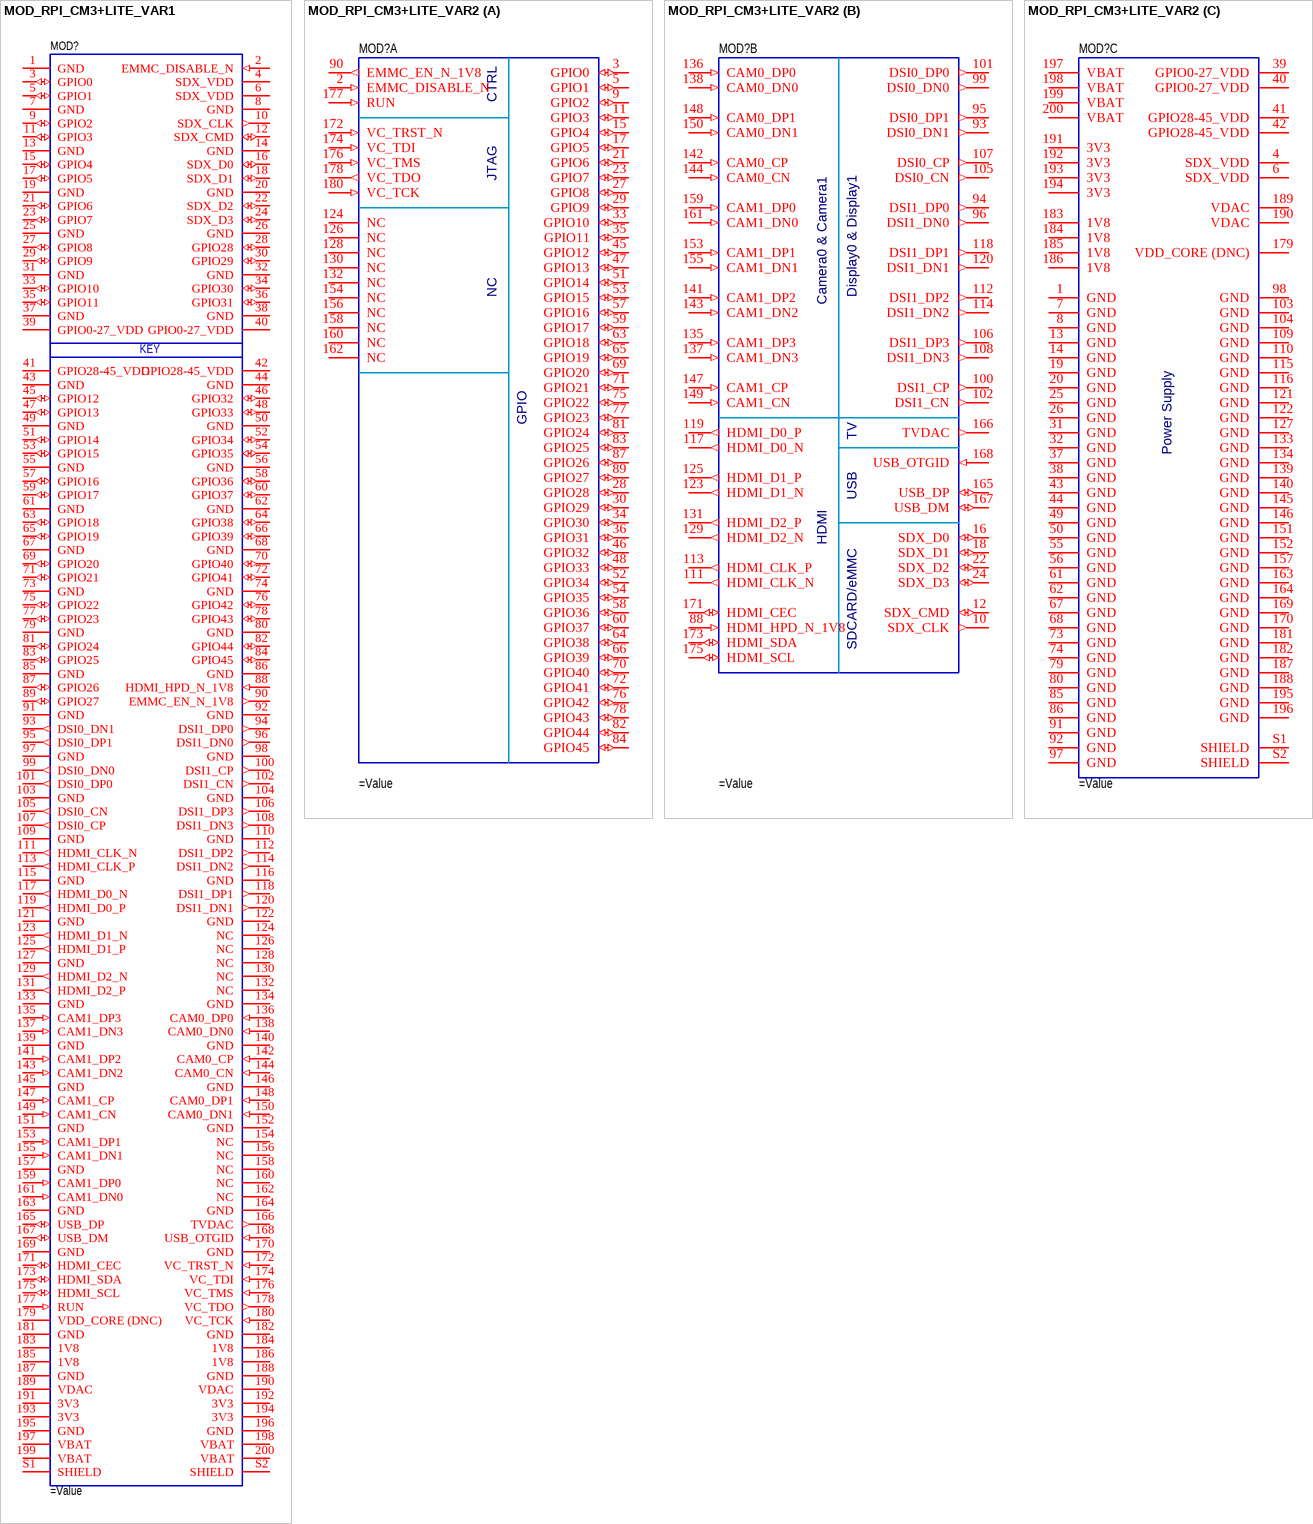
[diagram p13: symbols MOD_RPI_CM3+LITE_VAR1 to MOD_RPI_CM3+LITE_VAR2]

## MOD_RPI_CM3+LITE_VAR1
designator MOD?
PCB Module; RPi Compute Module 3+ Lite;
pins: 1 GND (power), 2 EMMC_DISABLE_N (in), 3 GPIO0 (io), 4 SDX_VDD (power), 5 GPIO1 (io), 6 SDX_VDD (power), 7 GND (power), 8 GND (power), 9 GPIO2 (io), 10 SDX_CLK (out), 11 GPIO3 (io), 12 SDX_CMD (io), 13 GND (power), 14 GND (power), 15 GPIO4 (io), 16 SDX_D0 (io), 17 GPIO5 (io), 18 SDX_D1 (io), 19 GND (power), 20 GND (power), 21 GPIO6 (io), 22 SDX_D2 (io), 23 GPIO7 (io), 24 SDX_D3 (io), 25 GND (power), 26 GND (power), 27 GPIO8 (io), 28 GPIO28 (io), 29 GPIO9 (io), 30 GPIO29 (io), 31 GND (power), 32 GND (power), 33 GPIO10 (io), 34 GPIO30 (io), 35 GPIO11 (io), 36 GPIO31 (io), 37 GND (power), 38 GND (power), 39 GPIO0-27_VDD (power), 40 GPIO0-27_VDD (power), 41 GPIO28-45_VDD (power), 42 GPIO28-45_VDD (power), 43 GND (power), 44 GND (power), 45 GPIO12 (io), 46 GPIO32 (io), 47 GPIO13 (io), 48 GPIO33 (io), 49 GND (power), 50 GND (power), 51 GPIO14 (io), 52 GPIO34 (io), 53 GPIO15 (io), 54 GPIO35 (io), 55 GND (power), 56 GND (power), 57 GPIO16 (io), 58 GPIO36 (io), 59 GPIO17 (io), 60 GPIO37 (io), 61 GND (power), 62 GND (power), 63 GPIO18 (io), 64 GPIO38 (io), 65 GPIO19 (io), 66 GPIO39 (io), 67 GND (power), 68 GND (power), 69 GPIO20 (io), 70 GPIO40 (io), 71 GPIO21 (io), 72 GPIO41 (io), 73 GND (power), 74 GND (power), 75 GPIO22 (io), 76 GPIO42 (io), 77 GPIO23 (io), 78 GPIO43 (io), 79 GND (power), 80 GND (power), 81 GPIO24 (io), 82 GPIO44 (io), 83 GPIO25 (io), 84 GPIO45 (io), 85 GND (power), 86 GND (power), 87 GPIO26 (io), 88 HDMI_HPD_N_1V8 (in), 89 GPIO27 (io), 90 EMMC_EN_N_1V8 (out), 91 GND (power), 92 GND (power), 93 DSI0_DN1 (out), 94 DSI1_DP0 (out), 95 DSI0_DP1 (out), 96 DSI1_DN0 (out), 97 GND (power), 98 GND (power), 99 DSI0_DN0 (out), 100 DSI1_CP (out), 101 DSI0_DP0 (out), 102 DSI1_CN (out), 103 GND (power), 104 GND (power), 105 DSI0_CN (out), 106 DSI1_DP3 (out), 107 DSI0_CP (out), 108 DSI1_DN3 (out), 109 GND (power), 110 GND (power), 111 HDMI_CLK_N (out), 112 DSI1_DP2 (out), 113 HDMI_CLK_P (out), 114 DSI1_DN2 (out), 115 GND (power), 116 GND (power), 117 HDMI_D0_N (out), 118 DSI1_DP1 (out), 119 HDMI_D0_P (out), 120 DSI1_DN1 (out), 121 GND (power), 122 GND (power), 123 HDMI_D1_N (out), 124 NC, 125 HDMI_D1_P (out), 126 NC, 127 GND (power), 128 NC, 129 HDMI_D2_N (out), 130 NC, 131 HDMI_D2_P (out), 132 NC, 133 GND (power), 134 GND (power), 135 CAM1_DP3 (in), 136 CAM0_DP0 (in), 137 CAM1_DN3 (in), 138 CAM0_DN0 (in), 139 GND (power), 140 GND (power), 141 CAM1_DP2 (in), 142 CAM0_CP (in), 143 CAM1_DN2 (in), 144 CAM0_CN (in), 145 GND (power), 146 GND (power), 147 CAM1_CP (in), 148 CAM0_DP1 (in), 149 CAM1_CN (in), 150 CAM0_DN1 (in), 151 GND (power), 152 GND (power), 153 CAM1_DP1 (in), 154 NC, 155 CAM1_DN1 (in), 156 NC, 157 GND (power), 158 NC, 159 CAM1_DP0 (in), 160 NC, 161 CAM1_DN0 (in), 162 NC, 163 GND (power), 164 GND (power), 165 USB_DP (io), 166 TVDAC (out), 167 USB_DM (io), 168 USB_OTGID (in), 169 GND (power), 170 GND (power), 171 HDMI_CEC (io), 172 VC_TRST_N (in), 173 HDMI_SDA (io), 174 VC_TDI (in), 175 HDMI_SCL (io), 176 VC_TMS (in), 177 RUN (in), 178 VC_TDO (out), 179 VDD_CORE (DNC), 180 VC_TCK (in), 181 GND (power), 182 GND (power), 183 1V8 (power), 184 1V8 (power), 185 1V8 (power), 186 1V8 (power), 187 GND (power), 188 GND (power), 189 VDAC (power), 190 VDAC (power), 191 3V3 (power), 192 3V3 (power), 193 3V3 (power), 194 3V3 (power), 195 GND (power), 196 GND (power), 197 VBAT (power), 198 VBAT (power), 199 VBAT (power), 200 VBAT (power), S1 SHIELD, S2 SHIELD
text: KEY

## MOD_RPI_CM3+LITE_VAR2
designator MOD?
PCB Module; RPi Compute Module 3+ Lite;
part A pins: 2 EMMC_DISABLE_N (in), 3 GPIO0 (io), 5 GPIO1 (io), 9 GPIO2 (io), 11 GPIO3 (io), 15 GPIO4 (io), 17 GPIO5 (io), 21 GPIO6 (io), 23 GPIO7 (io), 27 GPIO8 (io), 28 GPIO28 (io), 29 GPIO9 (io), 30 GPIO29 (io), 33 GPIO10 (io), 34 GPIO30 (io), 35 GPIO11 (io), 36 GPIO31 (io), 45 GPIO12 (io), 46 GPIO32 (io), 47 GPIO13 (io), 48 GPIO33 (io), 51 GPIO14 (io), 52 GPIO34 (io), 53 GPIO15 (io), 54 GPIO35 (io), 57 GPIO16 (io), 58 GPIO36 (io), 59 GPIO17 (io), 60 GPIO37 (io), 63 GPIO18 (io), 64 GPIO38 (io), 65 GPIO19 (io), 66 GPIO39 (io), 69 GPIO20 (io), 70 GPIO40 (io), 71 GPIO21 (io), 72 GPIO41 (io), 75 GPIO22 (io), 76 GPIO42 (io), 77 GPIO23 (io), 78 GPIO43 (io), 81 GPIO24 (io), 82 GPIO44 (io), 83 GPIO25 (io), 84 GPIO45 (io), 87 GPIO26 (io), 89 GPIO27 (io), 90 EMMC_EN_N_1V8 (out), 124 NC, 126 NC, 128 NC, 130 NC, 132 NC, 154 NC, 156 NC, 158 NC, 160 NC, 162 NC, 172 VC_TRST_N (in), 174 VC_TDI (in), 176 VC_TMS (in), 177 RUN (in), 178 VC_TDO (out), 180 VC_TCK (in)
part B pins: 10 SDX_CLK (out), 12 SDX_CMD (io), 16 SDX_D0 (io), 18 SDX_D1 (io), 22 SDX_D2 (io), 24 SDX_D3 (io), 88 HDMI_HPD_N_1V8 (in), 93 DSI0_DN1 (out), 94 DSI1_DP0 (out), 95 DSI0_DP1 (out), 96 DSI1_DN0 (out), 99 DSI0_DN0 (out), 100 DSI1_CP (out), 101 DSI0_DP0 (out), 102 DSI1_CN (out), 105 DSI0_CN (out), 106 DSI1_DP3 (out), 107 DSI0_CP (out), 108 DSI1_DN3 (out), 111 HDMI_CLK_N (out), 112 DSI1_DP2 (out), 113 HDMI_CLK_P (out), 114 DSI1_DN2 (out), 117 HDMI_D0_N (out), 118 DSI1_DP1 (out), 119 HDMI_D0_P (out), 120 DSI1_DN1 (out), 123 HDMI_D1_N (out), 125 HDMI_D1_P (out), 129 HDMI_D2_N (out), 131 HDMI_D2_P (out), 135 CAM1_DP3 (in), 136 CAM0_DP0 (in), 137 CAM1_DN3 (in), 138 CAM0_DN0 (in), 141 CAM1_DP2 (in), 142 CAM0_CP (in), 143 CAM1_DN2 (in), 144 CAM0_CN (in), 147 CAM1_CP (in), 148 CAM0_DP1 (in), 149 CAM1_CN (in), 150 CAM0_DN1 (in), 153 CAM1_DP1 (in), 155 CAM1_DN1 (in), 159 CAM1_DP0 (in), 161 CAM1_DN0 (in), 165 USB_DP (io), 166 TVDAC (out), 167 USB_DM (io), 168 USB_OTGID (in), 171 HDMI_CEC (io), 173 HDMI_SDA (io), 175 HDMI_SCL (io)
part C pins: 1 GND (power), 4 SDX_VDD (power), 6 SDX_VDD (power), 7 GND (power), 8 GND (power), 13 GND (power), 14 GND (power), 19 GND (power), 20 GND (power), 25 GND (power), 26 GND (power), 31 GND (power), 32 GND (power), 37 GND (power), 38 GND (power), 39 GPIO0-27_VDD (power), 40 GPIO0-27_VDD (power), 41 GPIO28-45_VDD (power), 42 GPIO28-45_VDD (power), 43 GND (power), 44 GND (power), 49 GND (power), 50 GND (power), 55 GND (power), 56 GND (power), 61 GND (power), 62 GND (power), 67 GND (power), 68 GND (power), 73 GND (power), 74 GND (power), 79 GND (power), 80 GND (power), 85 GND (power), 86 GND (power), 91 GND (power), 92 GND (power), 97 GND (power), 98 GND (power), 103 GND (power), 104 GND (power), 109 GND (power), 110 GND (power), 115 GND (power), 116 GND (power), 121 GND (power), 122 GND (power), 127 GND (power), 133 GND (power), 134 GND (power), 139 GND (power), 140 GND (power), 145 GND (power), 146 GND (power), 151 GND (power), 152 GND (power), 157 GND (power), 163 GND (power), 164 GND (power), 169 GND (power), 170 GND (power), 179 VDD_CORE (DNC), 181 GND (power), 182 GND (power), 183 1V8 (power), 184 1V8 (power), 185 1V8 (power), 186 1V8 (power), 187 GND (power), 188 GND (power), 189 VDAC (power), 190 VDAC (power), 191 3V3 (power), 192 3V3 (power), 193 3V3 (power), 194 3V3 (power), 195 GND (power), 196 GND (power), 197 VBAT (power), 198 VBAT (power), 199 VBAT (power), 200 VBAT (power), S1 SHIELD, S2 SHIELD
part A text: CTRL; JTAG; GPIO
part B text: Display0 & Display1; Camera0 & Camera1; TV; USB; HDMI; SDCARD/eMMC
part C text: Power Supply

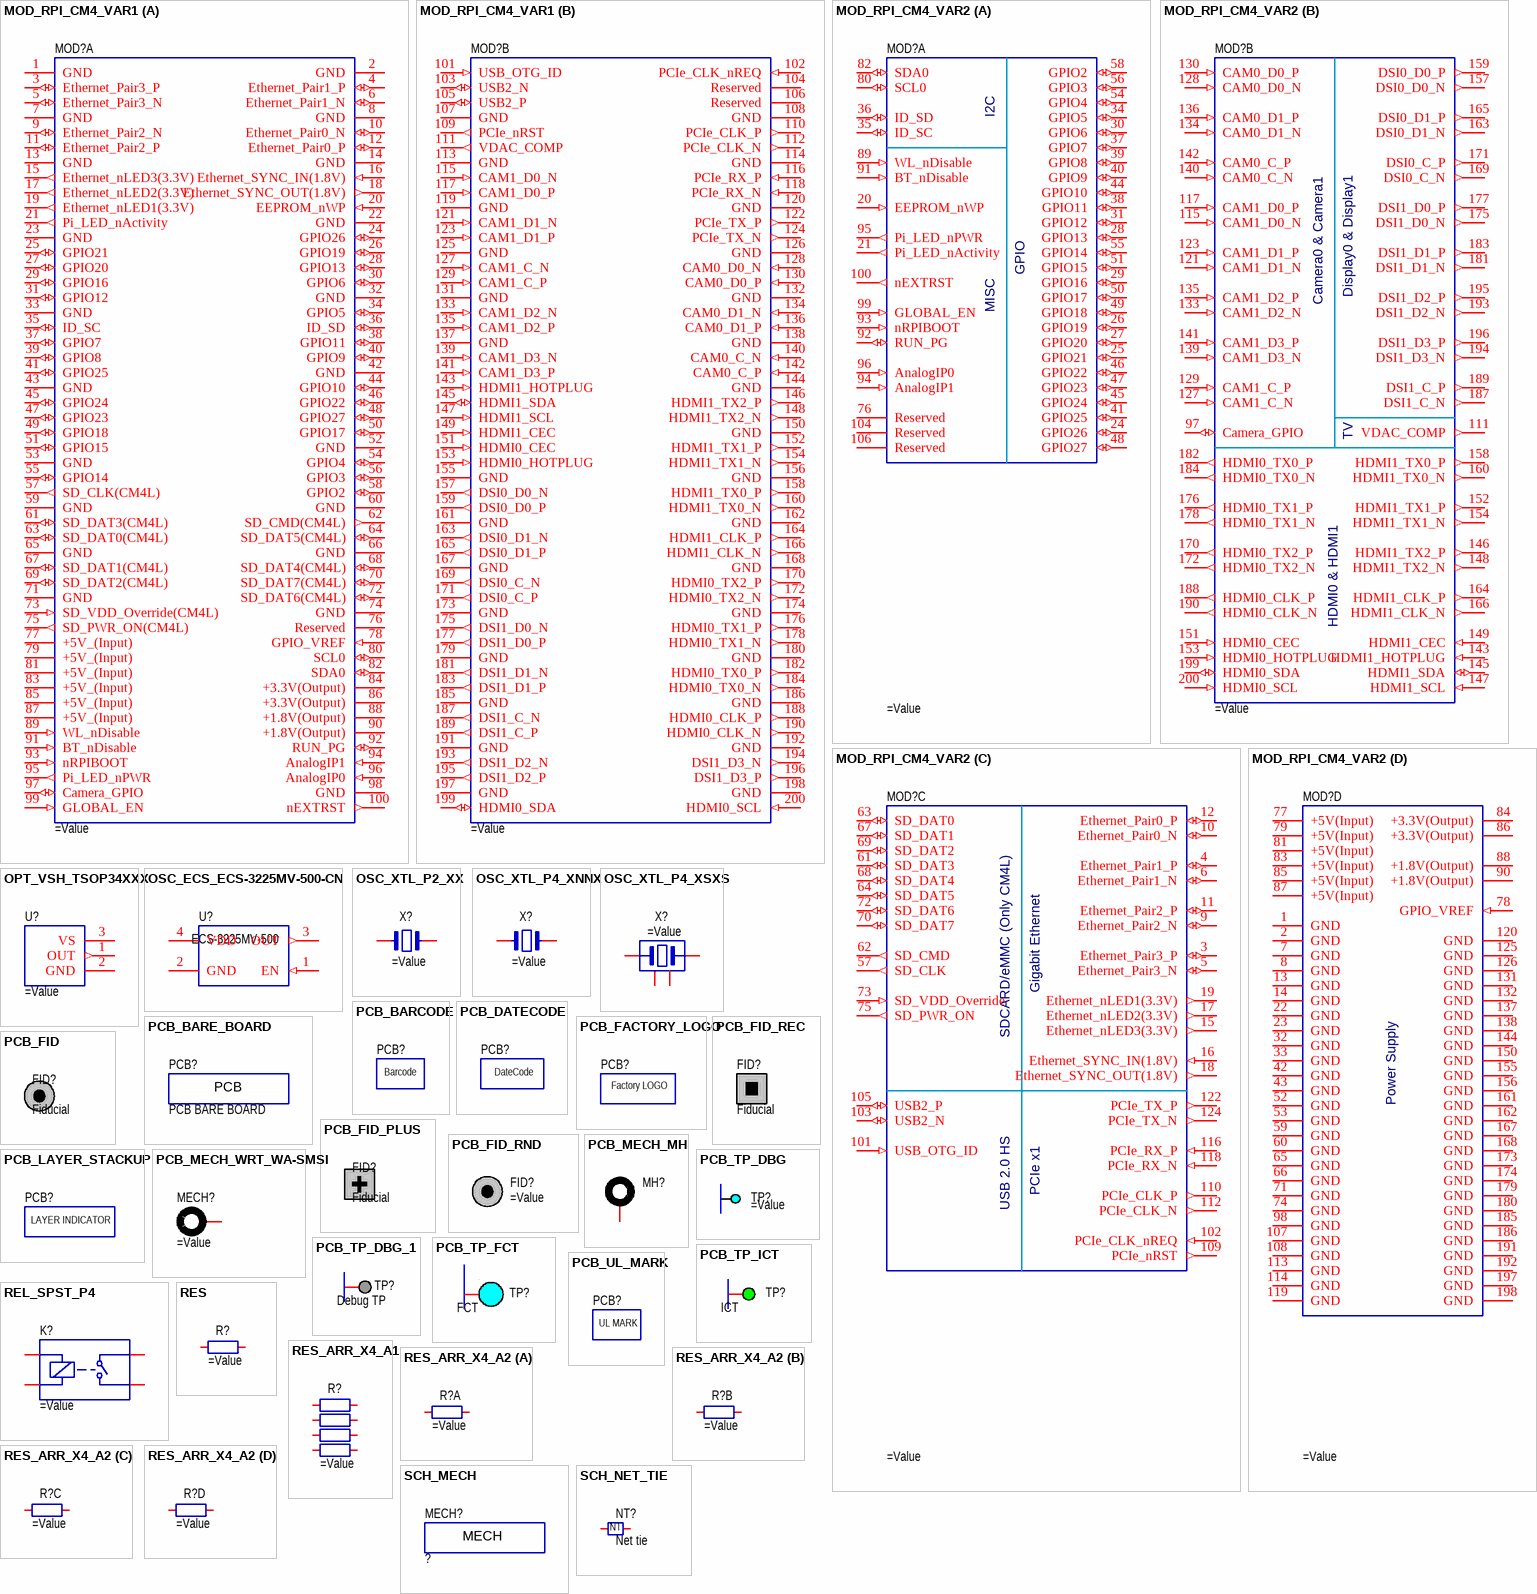
[diagram p14: symbols MOD_RPI_CM4_VAR1 to SCH_NET_TIE]

## MOD_RPI_CM4_VAR1
designator MOD?
PCB Module; RPi Compute Module 4;
part A pins: 1 GND (power), 2 GND (power), 3 Ethernet_Pair3_P (io), 4 Ethernet_Pair1_P (io), 5 Ethernet_Pair3_N (io), 6 Ethernet_Pair1_N (io), 7 GND (power), 8 GND (power), 9 Ethernet_Pair2_N (io), 10  Ethernet_Pair0_N (io), 11 Ethernet_Pair2_P (io), 12 Ethernet_Pair0_P (io), 13 GND (power), 14 GND (power), 15 Ethernet_nLED3(3.3V) (out), 16 Ethernet_SYNC_IN(1.8V) (in), 17 Ethernet_nLED2(3.3V) (out), 18 Ethernet_SYNC_OUT(1.8V) (out), 19 Ethernet_nLED1(3.3V) (out), 20 EEPROM_nWP (in), 21 Pi_LED_nActivity (out), 22 GND (power), 23 GND (power), 24 GPIO26 (io), 25 GPIO21 (io), 26 GPIO19 (io), 27 GPIO20 (io), 28 GPIO13 (io), 29 GPIO16 (io), 30 GPIO6 (io), 31 GPIO12 (io), 32 GND (power), 33 GND (power), 34 GPIO5 (io), 35 ID_SC (io), 36 ID_SD (io), 37 GPIO7 (io), 38 GPIO11 (io), 39 GPIO8 (io), 40 GPIO9 (io), 41 GPIO25 (io), 42 GND (power), 43 GND (power), 44 GPIO10 (io), 45 GPIO24 (io), 46 GPIO22 (io), 47 GPIO23 (io), 48 GPIO27 (io), 49 GPIO18 (io), 50 GPIO17 (io), 51 GPIO15 (io), 52 GND (power), 53 GND (power), 54 GPIO4 (io), 55 GPIO14 (io), 56 GPIO3 (io), 57 SD_CLK(CM4L) (out), 58 GPIO2 (io), 59 GND (power), 60 GND (power), 61 SD_DAT3(CM4L) (io), 62 SD_CMD(CM4L) (out), 63 SD_DAT0(CM4L) (io), 64 SD_DAT5(CM4L) (io), 65 GND (power), 66 GND (power), 67 SD_DAT1(CM4L) (io), 68 SD_DAT4(CM4L) (io), 69 SD_DAT2(CM4L) (io), 70 SD_DAT7(CM4L) (io), 71 GND (power), 72 SD_DAT6(CM4L) (io), 73 SD_VDD_Override(CM4L) (in), 74 GND (power), 75 SD_PWR_ON(CM4L) (out), 76 Reserved, 77 +5V_(Input) (power), 78 GPIO_VREF (in), 79 +5V_(Input) (power), 80 SCL0 (io), 81 +5V_(Input) (power), 82 SDA0 (io), 83 +5V_(Input) (power), 84 +3.3V(Output) (power), 85 +5V_(Input) (power), 86 +3.3V(Output) (power), 87 +5V_(Input) (power), 88 +1.8V(Output) (power), 89 WL_nDisable (in), 90 +1.8V(Output) (power), 91 BT_nDisable (in), 92 RUN_PG (io), 93 nRPIBOOT (in), 94 AnalogIP1 (in), 95 Pi_LED_nPWR (out), 96 AnalogIP0 (in), 97 Camera_GPIO (io), 98 GND (power), 99 GLOBAL_EN (in), 100 nEXTRST (out)
part B pins: 101 USB_OTG_ID (in), 102 PCIe_CLK_nREQ (in), 103 USB2_N (io), 104 Reserved, 105 USB2_P (io), 106 Reserved, 107 GND (power), 108 GND (power), 109 PCIe_nRST (out), 110 PCIe_CLK_P (out), 111 VDAC_COMP (out), 112 PCIe_CLK_N (out), 113 GND (power), 114 GND (power), 115 CAM1_D0_N (in), 116 PCIe_RX_P (in), 117 CAM1_D0_P (in), 118 PCIe_RX_N (in), 119 GND (power), 120 GND (power), 121 CAM1_D1_N (in), 122 PCIe_TX_P (out), 123 CAM1_D1_P (in), 124 PCIe_TX_N (out), 125 GND (power), 126 GND (power), 127 CAM1_C_N (in), 128 CAM0_D0_N (in), 129 CAM1_C_P (in), 130 CAM0_D0_P (in), 131 GND (power), 132 GND (power), 133 CAM1_D2_N (in), 134 CAM0_D1_N (in), 135 CAM1_D2_P (in), 136 CAM0_D1_P (in), 137 GND (power), 138 GND (power), 139 CAM1_D3_N (in), 140 CAM0_C_N (in), 141 CAM1_D3_P (in), 142 CAM0_C_P (in), 143 HDMI1_HOTPLUG (in), 144 GND (power), 145 HDMI1_SDA (io), 146 HDMI1_TX2_P (out), 147 HDMI1_SCL (in), 148 HDMI1_TX2_N (out), 149 HDMI1_CEC (in), 150 GND (power), 151 HDMI0_CEC (in), 152 HDMI1_TX1_P (out), 153 HDMI0_HOTPLUG (in), 154 HDMI1_TX1_N (out), 155 GND (power), 156 GND (power), 157 DSI0_D0_N (out), 158 HDMI1_TX0_P (out), 159 DSI0_D0_P (out), 160 HDMI1_TX0_N (out), 161 GND (power), 162 GND (power), 163 DSI0_D1_N (out), 164 HDMI1_CLK_P (out), 165 DSI0_D1_P (out), 166 HDMI1_CLK_N (out), 167 GND (power), 168 GND (power), 169 DSI0_C_N (out), 170 HDMI0_TX2_P (out), 171 DSI0_C_P (out), 172 HDMI0_TX2_N (out), 173 GND (power), 174 GND (power), 175 DSI1_D0_N (out), 176 HDMI0_TX1_P (out), 177 DSI1_D0_P (out), 178 HDMI0_TX1_N (out), 179 GND (power), 180 GND (power), 181 DSI1_D1_N (out), 182 HDMI0_TX0_P (out), 183 DSI1_D1_P (out), 184 HDMI0_TX0_N (out), 185 GND (power), 186 GND (power), 187 DSI1_C_N (out), 188 HDMI0_CLK_P (out), 189 DSI1_C_P (out), 190 HDMI0_CLK_N (out), 191 GND (power), 192 GND (power), 193 DSI1_D2_N (out), 194 DSI1_D3_N (out), 195 DSI1_D2_P (out), 196 DSI1_D3_P (out), 197 GND (power), 198 GND (power), 199 HDMI0_SDA (io), 200 HDMI0_SCL (in)

## MOD_RPI_CM4_VAR2
designator MOD?
PCB Module; RPi Compute Module 4;
part A pins: 20 EEPROM_nWP (in), 21 Pi_LED_nActivity (out), 24 GPIO26 (io), 25 GPIO21 (io), 26 GPIO19 (io), 27 GPIO20 (io), 28 GPIO13 (io), 29 GPIO16 (io), 30 GPIO6 (io), 31 GPIO12 (io), 34 GPIO5 (io), 35 ID_SC (io), 36 ID_SD (io), 37 GPIO7 (io), 38 GPIO11 (io), 39 GPIO8 (io), 40 GPIO9 (io), 41 GPIO25 (io), 44 GPIO10 (io), 45 GPIO24 (io), 46 GPIO22 (io), 47 GPIO23 (io), 48 GPIO27 (io), 49 GPIO18 (io), 50 GPIO17 (io), 51 GPIO15 (io), 54 GPIO4 (io), 55 GPIO14 (io), 56 GPIO3 (io), 58 GPIO2 (io), 76 Reserved, 80 SCL0 (io), 82 SDA0 (io), 89 WL_nDisable (in), 91 BT_nDisable (in), 92 RUN_PG (io), 93 nRPIBOOT (in), 94 AnalogIP1 (in), 95 Pi_LED_nPWR (out), 96 AnalogIP0 (in), 99 GLOBAL_EN (in), 100 nEXTRST (out), 104 Reserved, 106 Reserved
part B pins: 97 Camera_GPIO (io), 111 VDAC_COMP (out), 115 CAM1_D0_N (in), 117 CAM1_D0_P (in), 121 CAM1_D1_N (in), 123 CAM1_D1_P (in), 127 CAM1_C_N (in), 128 CAM0_D0_N (in), 129 CAM1_C_P (in), 130 CAM0_D0_P (in), 133 CAM1_D2_N (in), 134 CAM0_D1_N (in), 135 CAM1_D2_P (in), 136 CAM0_D1_P (in), 139 CAM1_D3_N (in), 140 CAM0_C_N (in), 141 CAM1_D3_P (in), 142 CAM0_C_P (in), 143 HDMI1_HOTPLUG (in), 145 HDMI1_SDA (io), 146 HDMI1_TX2_P (out), 147 HDMI1_SCL (in), 148 HDMI1_TX2_N (out), 149 HDMI1_CEC (in), 151 HDMI0_CEC (in), 152 HDMI1_TX1_P (out), 153 HDMI0_HOTPLUG (in), 154 HDMI1_TX1_N (out), 157 DSI0_D0_N (out), 158 HDMI1_TX0_P (out), 159 DSI0_D0_P (out), 160 HDMI1_TX0_N (out), 163 DSI0_D1_N (out), 164 HDMI1_CLK_P (out), 165 DSI0_D1_P (out), 166 HDMI1_CLK_N (out), 169 DSI0_C_N (out), 170 HDMI0_TX2_P (out), 171 DSI0_C_P (out), 172 HDMI0_TX2_N (out), 175 DSI1_D0_N (out), 176 HDMI0_TX1_P (out), 177 DSI1_D0_P (out), 178 HDMI0_TX1_N (out), 181 DSI1_D1_N (out), 182 HDMI0_TX0_P (out), 183 DSI1_D1_P (out), 184 HDMI0_TX0_N (out), 187 DSI1_C_N (out), 188 HDMI0_CLK_P (out), 189 DSI1_C_P (out), 190 HDMI0_CLK_N (out), 193 DSI1_D2_N (out), 194 DSI1_D3_N (out), 195 DSI1_D2_P (out), 196 DSI1_D3_P (out), 199 HDMI0_SDA (io), 200 HDMI0_SCL (in)
part C pins: 3 Ethernet_Pair3_P (io), 4 Ethernet_Pair1_P (io), 5 Ethernet_Pair3_N (io), 6 Ethernet_Pair1_N (io), 9 Ethernet_Pair2_N (io), 10  Ethernet_Pair0_N (io), 11 Ethernet_Pair2_P (io), 12 Ethernet_Pair0_P (io), 15 Ethernet_nLED3(3.3V) (out), 16 Ethernet_SYNC_IN(1.8V) (in), 17 Ethernet_nLED2(3.3V) (out), 18 Ethernet_SYNC_OUT(1.8V) (out), 19 Ethernet_nLED1(3.3V) (out), 57 SD_CLK (out), 61 SD_DAT3 (io), 62 SD_CMD (out), 63 SD_DAT0 (io), 64 SD_DAT5 (io), 67 SD_DAT1 (io), 68 SD_DAT4 (io), 69 SD_DAT2 (io), 70 SD_DAT7 (io), 72 SD_DAT6 (io), 73 SD_VDD_Override (in), 75 SD_PWR_ON (out), 101 USB_OTG_ID (in), 102 PCIe_CLK_nREQ (in), 103 USB2_N (io), 105 USB2_P (io), 109 PCIe_nRST (out), 110 PCIe_CLK_P (out), 112 PCIe_CLK_N (out), 116 PCIe_RX_P (in), 118 PCIe_RX_N (in), 122 PCIe_TX_P (out), 124 PCIe_TX_N (out)
part D pins: 1 GND (power), 2 GND (power), 7 GND (power), 8 GND (power), 13 GND (power), 14 GND (power), 22 GND (power), 23 GND (power), 32 GND (power), 33 GND (power), 42 GND (power), 43 GND (power), 52 GND (power), 53 GND (power), 59 GND (power), 60 GND (power), 65 GND (power), 66 GND (power), 71 GND (power), 74 GND (power), 77 +5V(Input) (power), 78 GPIO_VREF (in), 79 +5V(Input) (power), 81 +5V(Input) (power), 83 +5V(Input) (power), 84 +3.3V(Output) (power), 85 +5V(Input) (power), 86 +3.3V(Output) (power), 87 +5V(Input) (power), 88 +1.8V(Output) (power), 90 +1.8V(Output) (power), 98 GND (power), 107 GND (power), 108 GND (power), 113 GND (power), 114 GND (power), 119 GND (power), 120 GND (power), 125 GND (power), 126 GND (power), 131 GND (power), 132 GND (power), 137 GND (power), 138 GND (power), 144 GND (power), 150 GND (power), 155 GND (power), 156 GND (power), 161 GND (power), 162 GND (power), 167 GND (power), 168 GND (power), 173 GND (power), 174 GND (power), 179 GND (power), 180 GND (power), 185 GND (power), 186 GND (power), 191 GND (power), 192 GND (power), 197 GND (power), 198 GND (power)
part A text: I2C; GPIO; MISC
part B text: Display0 & Display1; Camera0 & Camera1; TV; HDMI0 & HDMI1
part C text: Gigabit Ethernet; SDCARD/eMMC (Only CM4L); PCIe x1; USB 2.0 HS
part D text: Power Supply

## OPT_VSH_TSOP34XXX
designator U?
Opto; IR Receiver
pins: 1 OUT (out), 2 GND (power), 3 VS (power)

## OSC_ECS_ECS-3225MV-500-CN
designator U?, comment ECS-3225MV-500
OSC; Manufacturer: ECS; MPN: ECS-3225MV-500-CN-TR; Specification: Multi volt crystal oscillator, ECS-2520MV series, 50MHz, 1.6 - 3.6V, 25ppm, SMD 3.2x2.5mm; Component Type: Oscillator; Mounting Type: SMD; Operating Temperature: -40°C to +85°C; Package: SMD 3225 OSC; Value: ECS-3225MV-500
footprint OSC_SMD_3225_4P (Footprint not found)
pins: 1 EN (in), 2 GND (power), 3 OUT (out), 4 VDD (power)

## OSC_XTL_P2_XX
designator X?
Oscillator; Crystal;
pins: 1, 2

## OSC_XTL_P4_XNNX
designator X?
Oscillator; Crystal;
pins: 1, 4

## OSC_XTL_P4_XSXS
designator X?
Oscillator; Crystal;
pins: 1, 2, 3, 4

## PCB_BARCODE
designator PCB?  (net tie, no BOM)
SCH SYMBOL STATUS: Checked
footprint PCB_BARCODE_1D_35MM
footprint PCB_BARCODE_2D_5.7MM
footprint PCB_BARCODE_2D_6.0MM
footprint PCB_BARCODE_2D_10MM
text: Barcode

## PCB_BARE_BOARD
designator PCB?, comment PCB BARE BOARD  (mechanical)
PCB; Component Type: PCB board; Mounting Type: N/A; MPN: N/A; Operating Temperature: N/A; Package: N/A; Specification: PCB bare board; Value: PCB BARE BOARD

## PCB_DATECODE
designator PCB?  (net tie, no BOM)
SCH SYMBOL STATUS: Checked
footprint PCB_INFO_DATA_CODE
text: DateCode